# Altium integrated library Xilinx Spartan-3.IntLib: 75 symbols (part 14 of 16)
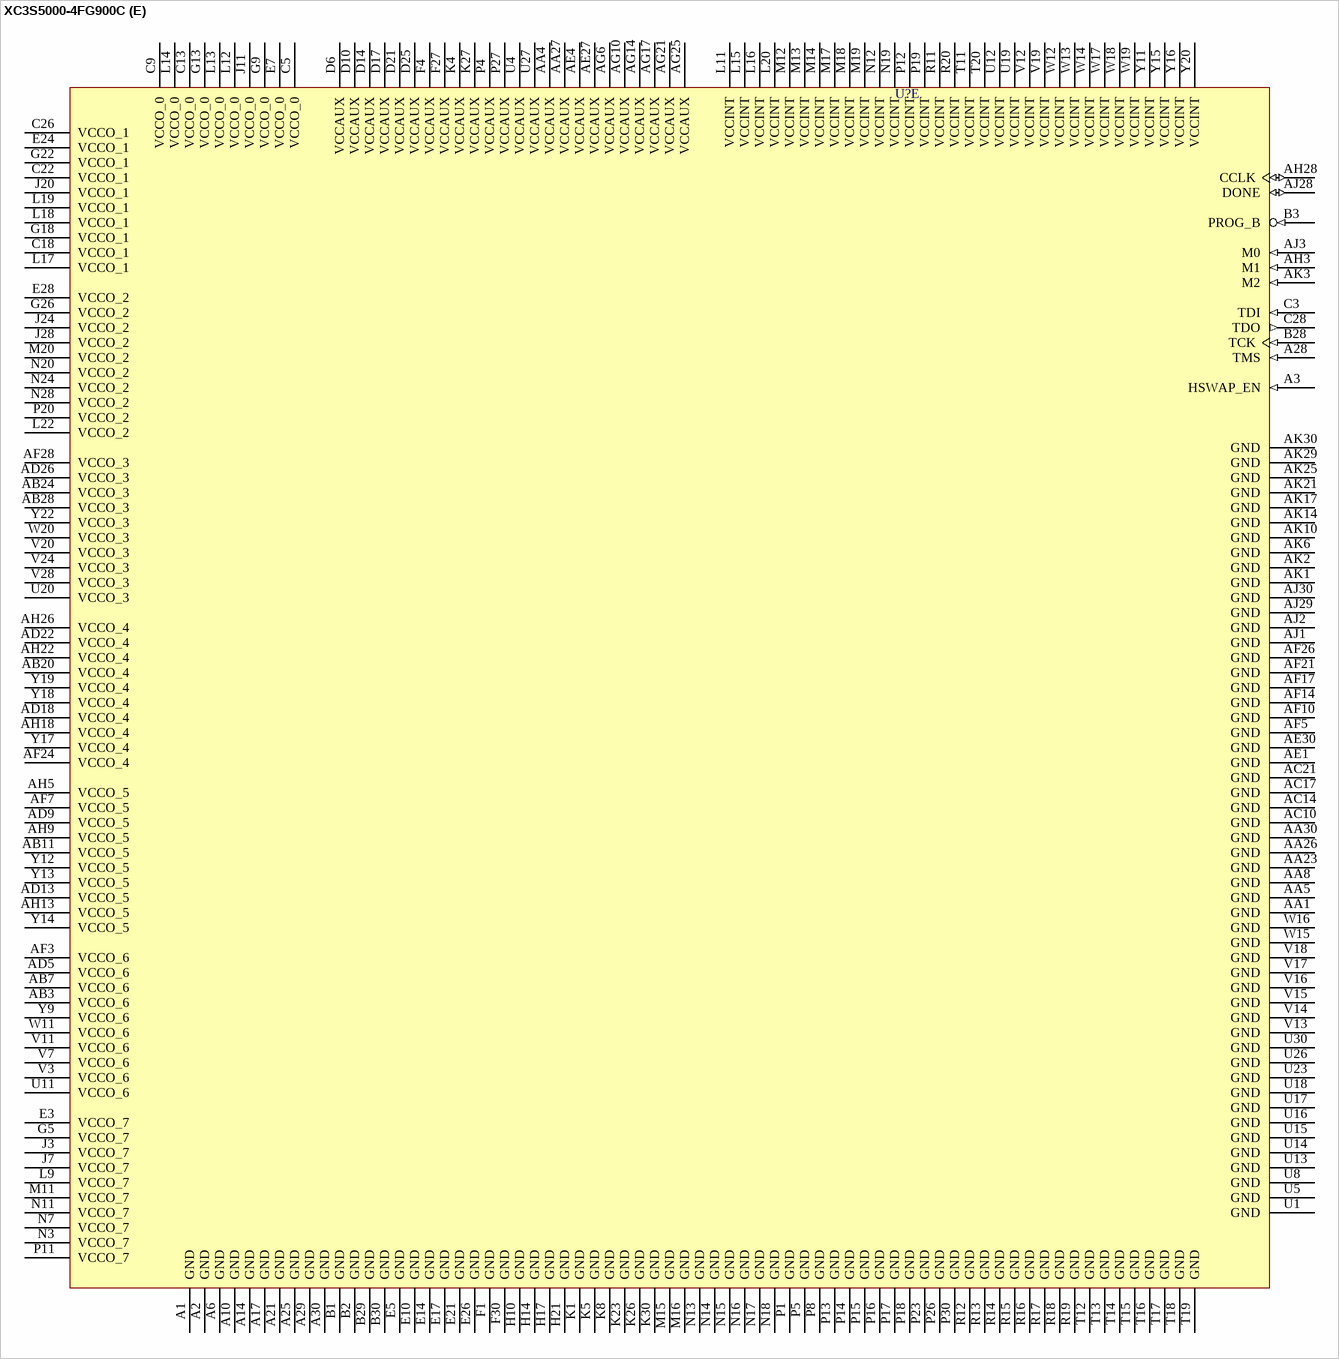
[diagram p180: symbol XC3S5000-4FG900C]

## XC3S5000-4FG900C
designator U?
Spartan-3 1.2V FPGA, 633 User I/Os, 900-ball FBGA, Standard Performance, Commercial Grade; PackageDocument: ver1.1, Apr-2001; Published: 17-Sep-2003; DatasheetDocument: 04-Mar-2004; PackageReference: FG900; Publisher: Altium Limited; Code_IPC: PBGA 31X31 FE900
footprint FG900 (900-Ball Fine Pitch Ball Grid Array (FG900))
3D model XC3S5000-FG900 (900-Ball Fine Pitch Ball Grid Array (FG900))
signal-integrity model XC3S5000_FG900 (Spartan-3)
part A pins: A4 IO_L01P_0/VRN_0 (io), A5 IO_L02P_0 (io), A7 IO_L35P_0 (io), A8 IO_L09P_0 (io), A9 IO_L38P_0 (io), A11 IO_L17P_0 (io), A12 IO_L22P_0 (io), A13 IO_L25P_0 (io), A15 IO_L32P_0/GCLK6 (io), A16 IO (io), A18 IO_L39N_1 (io), A19 IO_L26N_1 (io), A20 IO_L21N_1 (io), A22 IO_L15N_1 (io), A23 IO_L11N_1 (io), A24 IO_L07N_1 (io), A26 IO_L03N_1 (io), A27 IO_L01N_1/VRP_1 (io), B4 IO_L01N_0/VRP_0 (io), B5 IO_L02N_0 (io), B6 IO_L04P_0 (io), B7 IO_L35N_0 (io), B8 IO_L09N_0 (io), B9 IO_L38N_0 (io), B10 IO_L12P_0 (io), B11 IO_L17N_0 (io), B12 IO_L22N_0 (io), B13 IO_L25N_0 (io), B14 IO_L28P_0 (io), B15 IO_L32N_0/GCLK7 (io), B16 IO_L32N_1/GCLK5 (io), B17 IO_L28N_1 (io), B18 IO_L39P_1 (io), B19 IO_L26P_1 (io), B20 IO_L21P_1 (io), B21 IO_L17N_1/VREF_1 (io), B22 IO_L15P_1 (io), B23 IO_L11P_1 (io), B24 IO_L07P_1 (io), B25 IO_L04N_1 (io), B26 IO_L03P_1 (io), B27 IO_L01P_1/VRN_1 (io), C4 IO/VREF_0 (io), C6 IO_L04N_0 (io), C7 IO_L06P_0 (io), C8 IO_L08P_0 (io), C10 IO_L12N_0 (io), C11 IO_L16P_0 (io), C12 IO_L21P_0 (io), C14 IO_L28N_0 (io), C15 IO_L31P_0/VREF_0 (io), C16 IO_L32P_1/GCLK4 (io), C17 IO_L28P_1 (io), C19 IO_L25N_1 (io), C20 IO_L20N_1 (io), C21 IO_L17P_1 (io), C23 IO_L10N_1/VREF_1 (io), C24 IO_L06N_1/VREF_1 (io), C25 IO_L04P_1 (io), C27 IO_L02P_1 (io), D5 IO_L03N_0 (io), D7 IO_L06N_0 (io), D8 IO_L08N_0 (io), D9 IO_L37P_0 (io), D11 IO_L16N_0 (io), D12 IO_L21N_0 (io), D13 IO (io), D15 IO_L31N_0 (io), D16 IO_L31N_1/VREF_1 (io), D18 IO_L38N_1 (io), D19 IO_L25P_1 (io), D20 IO_L20P_1 (io), D22 IO_L14N_1 (io), D23 IO_L10P_1 (io), D24 IO_L06P_1 (io), D26 IO_L02N_1 (io), E6 IO_L03P_0 (io), E8 IO_L07P_0 (io), E9 IO_L37N_0 (io), E11 IO_L15P_0 (io), E12 IO_L20P_0 (io), E13 IO_L24P_0 (io), E15 IO (io), E16 IO_L31P_1 (io), E18 IO_L38P_1 (io), E19 IO_L24N_1 (io), E20 IO_L19N_1 (io), E22 IO_L14P_1 (io), E23 IO_L13P_1 (io), E25 IO (io), F6 IO_L05N_0 (io), F7 IO_L05P_0/VREF_0 (io), F8 IO_L07N_0 (io), F9 IO/VREF_0 (io), F10 IO_L11P_0 (io), F11 IO_L15N_0 (io), F12 IO_L20N_0 (io), F13 IO_L24N_0 (io), F14 IO_L27P_0 (io), F15 IO_L30P_0 (io), F16 IO (io), F17 IO_L27N_1 (io), F18 IO (io), F19 IO_L24P_1 (io), F20 IO_L19P_1 (io), F21 IO_L16N_1 (io), F22 IO_L13N_1 (io), F23 IO_L09N_1 (io), F24 IO_L05N_1 (io), F25 IO_L05P_1 (io), G7 IO_L36N_0 (io), G8 IO (io), G10 IO_L11N_0 (io), G11 IO_L14P_0 (io), G12 IO_L19P_0 (io), G14 IO_L27N_0 (io), G15 IO_L30N_0 (io), G16 IO_L30N_1 (io), G17 IO_L27P_1 (io), G19 IO_L23N_1 (io), G20 IO_L18N_1 (io), G21 IO_L16P_1 (io), G23 IO_L09P_1 (io), G24 IO_L08P_1 (io), H8 IO_L36P_0 (io), H9 IO_L10P_0 (io), H11 IO_L14N_0 (io), H12 IO_L19N_0 (io), H13 IO_L23P_0 (io), H15 IO_L29P_0 (io), H16 IO_L30P_1 (io), H18 IO_L37N_1 (io), H19 IO_L23P_1 (io), H20 IO_L18P_1 (io), H22 IO_L12N_1 (io), H23 IO_L08N_1 (io), J9 IO_L10N_0 (io), J10 IO_L13N_0 (io), J12 IO_L18P_0 (io), J13 IO_L23N_0 (io), J14 IO_L26P_0/VREF_0 (io), J15 IO_L29N_0 (io), J16 IO_L29N_1 (io), J17 IO/VREF_1 (io), J18 IO_L37P_1 (io), J19 IO_L22N_1 (io), J21 IO (io), J22 IO_L12P_1 (io), K11 IO_L13P_0 (io), K12 IO_L18N_0 (io), K13 IO (io), K14 IO_L26N_0 (io), K15 IO (io), K16 IO_L29P_1 (io), K17 IO_L40N_1 (io), K18 IO_L40P_1 (io), K19 IO_L22P_1 (io), K20 IO (io)
part B pins: AA21 IO_L20P_3 (io), AA22 IO_L16N_3 (io), AA24 IO_L17P_3/VREF_3 (io), AA25 IO_L17N_3 (io), AA28 IO_L19P_3 (io), AA29 IO_L19N_3 (io), AB23 IO_L16P_3 (io), AB25 IO (io), AB26 IO_L14P_3 (io), AB27 IO_L14N_3 (io), AB29 IO_L15P_3 (io), AB30 IO_L15N_3 (io), AC24 IO_L09N_3 (io), AC25 IO_L10P_3 (io), AC26 IO_L10N_3 (io), AC27 IO_L11P_3 (io), AC28 IO_L11N_3 (io), AC29 IO_L13P_3 (io), AC30 IO_L13N_3/VREF_3 (io), AD25 IO_L09P_3/VREF_3 (io), AD27 IO_L07P_3 (io), AD28 IO_L07N_3 (io), AD29 IO_L08P_3 (io), AD30 IO_L08N_3 (io), AE26 IO_L05N_3 (io), AE28 IO_L06P_3 (io), AE29 IO_L06N_3 (io), AF27 IO_L05P_3 (io), AF29 IO_L04P_3 (io), AF30 IO_L04N_3 (io), AG27 IO_L02P_3 (io), AG28 IO_L02N_3/VREF_3 (io), AG29 IO_L03P_3 (io), AG30 IO_L03N_3 (io), AH29 IO_L01P_3/VRN_3 (io), AH30 IO_L01N_3/VRP_3 (io), C29 IO_L01N_2/VRP_2 (io), C30 IO_L01P_2/VRN_2 (io), D27 IO_L02N_2 (io), D28 IO_L02P_2 (io), D29 IO_L03N_2/VREF_2 (io), D30 IO_L03P_2 (io), E27 IO_L41N_2 (io), E29 IO_L04N_2 (io), E30 IO_L04P_2 (io), F26 IO_L41P_2 (io), F28 IO_L05N_2 (io), F29 IO_L05P_2 (io), G25 IO_L08N_2 (io), G27 IO_L06N_2 (io), G28 IO_L06P_2 (io), G29 IO_L07N_2 (io), G30 IO_L07P_2 (io), H24 IO_L08P_2 (io), H25 IO_L09N_2/VREF_2 (io), H26 IO_L09P_2 (io), H27 IO_L10N_2 (io), H28 IO_L10P_2 (io), H29 IO_L12N_2 (io), H30 IO_L12P_2 (io), J23 IO_L15N_2 (io), J25 IO (io), J26 IO_L13N_2 (io), J27 IO_L13P_2/VREF_2 (io), J29 IO_L14N_2 (io), J30 IO_L14P_2 (io), K21 IO_L46N_2 (io), K22 IO_L15P_2 (io), K24 IO_L16N_2 (io), K25 IO_L16P_2 (io), K28 IO_L45N_2 (io), K29 IO_L45P_2 (io), L21 IO_L46P_2 (io), L23 IO_L47N_2 (io), L24 IO_L47P_2 (io), L25 IO_L19N_2 (io), L26 IO_L19P_2 (io), L27 IO_L20N_2 (io), L28 IO_L20P_2 (io), L29 IO_L21N_2 (io), L30 IO_L21P_2 (io), M21 IO_L26N_2 (io), M22 IO_L22N_2 (io), M23 IO_L22P_2 (io), M24 IO_L23N_2/VREF_2 (io), M25 IO_L23P_2 (io), M26 IO_L28N_2 (io), M27 IO_L24N_2 (io), M28 IO_L24P_2 (io), M29 IO_L50N_2 (io), M30 IO_L50P_2 (io), N21 IO_L26P_2 (io), N22 IO_L27N_2 (io), N23 IO_L27P_2 (io), N25 IO_L28P_2 (io), N26 IO_L29N_2 (io), N27 IO_L29P_2 (io), N29 IO_L31N_2 (io), N30 IO_L31P_2 (io), P21 IO_L32N_2 (io), P22 IO_L32P_2 (io), P24 IO_L33N_2 (io), P25 IO_L33P_2 (io), P28 IO_L34N_2/VREF_2 (io), P29 IO_L34P_2 (io), R21 IO_L35N_2 (io), R22 IO_L35P_2 (io), R23 IO_L37N_2 (io), R24 IO_L37P_2 (io), R25 IO_L38N_2 (io), R26 IO_L38P_2 (io), R27 IO_L39N_2 (io), R28 IO_L39P_2 (io), R29 IO_L40N_2 (io), R30 IO_L40P_2/VREF_2 (io), T21 IO_L35P_3 (io), T22 IO_L35N_3 (io), T23 IO_L37P_3 (io), T24 IO_L37N_3 (io), T25 IO_L38P_3 (io), T26 IO_L38N_3 (io), T27 IO_L39P_3 (io), T28 IO_L39N_3 (io), T29 IO_L40P_3 (io), T30 IO_L40N_3/VREF_3 (io), U21 IO_L32P_3 (io), U22 IO_L32N_3 (io), U24 IO_L33P_3 (io), U25 IO_L33N_3 (io), U28 IO_L34P_3/VREF_3 (io), U29 IO_L34N_3 (io), V21 IO_L27N_3 (io), V22 IO_L28P_3 (io), V23 IO_L28N_3 (io), V25 IO_L29N_3 (io), V26 IO_L50P_3 (io), V27 IO_L50N_3 (io), V29 IO_L31P_3 (io), V30 IO_L31N_3 (io), W21 IO_L27P_3 (io), W22 IO_L46P_3 (io), W23 IO_L46N_3 (io), W24 IO_L47P_3 (io), W25 IO_L47N_3 (io), W26 IO_L29P_3 (io), W27 IO_L48P_3 (io), W28 IO_L48N_3 (io), W29 IO_L26P_3 (io), W30 IO_L26N_3 (io), Y21 IO_L20N_3 (io), Y23 IO_L21P_3 (io), Y24 IO_L21N_3 (io), Y25 IO_L22P_3 (io), Y26 IO_L22N_3 (io), Y27 IO_L23P_3/VREF_3 (io), Y28 IO_L23N_3 (io), Y29 IO_L24P_3 (io), Y30 IO_L24N_3 (io)
part C pins: AA11 IO (io), AA12 IO_L22P_5 (io), AA13 IO_L22N_5 (io), AA14 IO_L26P_5 (io), AA15 IO (io), AA16 IO (io), AA17 IO_L26N_4 (io), AA18 IO (io), AA19 IO_L18N_4 (io), AA20 IO_L13P_4 (io), AB9 IO_L08P_5 (io), AB10 IO (io), AB12 IO_L17N_5 (io), AB13 IO_L23P_5 (io), AB14 IO_L26N_5 (io), AB15 IO_L29P_5/VREF_5 (io), AB16 IO_L29N_4 (io), AB17 IO_L26P_4/VREF_4 (io), AB18 IO_L23N_4 (io), AB19 IO_L18P_4 (io), AB21 IO_L13N_4 (io), AB22 IO_L08N_4 (io), AC8 IO_L36P_5 (io), AC9 IO_L08N_5 (io), AC11 IO_L17P_5 (io), AC12 IO_L18P_5 (io), AC13 IO_L23N_5 (io), AC15 IO_L29N_5 (io), AC16 IO_L29P_4 (io), AC18 IO_L23P_4 (io), AC19 IO_L19N_4 (io), AC20 IO_L14N_4 (io), AC22 IO_L08P_4 (io), AC23 IO_L04P_4 (io), AD7 IO_L05P_5 (io), AD8 IO_L36N_5 (io), AD10 IO_L13P_5 (io), AD11 IO_L13N_5 (io), AD12 IO_L18N_5 (io), AD14 IO_L30P_5 (io), AD15 IO_L30N_5 (io), AD16 IO_L30N_4/D2 (io), AD17 IO_L27N_4/DIN/D0 (io), AD19 IO_L19P_4 (io), AD20 IO_L14P_4 (io), AD21 IO_L11N_4 (io), AD23 IO (io), AD24 IO_L04N_4 (io), AE6 IO (io), AE7 IO_L05N_5 (io), AE8 IO_L37P_5 (io), AE9 IO_L11P_5 (io), AE10 IO_L11N_5/VREF_5 (io), AE11 IO_L14P_5 (io), AE12 IO_L19P_5/VREF_5 (io), AE13 IO_L27P_5 (io), AE14 IO_L27N_5/VREF_5 (io), AE15 IO (io), AE16 IO_L30P_4/D3 (io), AE17 IO_L27P_4/D1 (io), AE18 IO_L24N_4 (io), AE19 IO_L20N_4 (io), AE20 IO_L15N_4 (io), AE21 IO_L11P_4 (io), AE22 IO (io), AE23 IO_L05N_4 (io), AE24 IO_L34P_4 (io), AE25 IO_L34N_4 (io), AF6 IO_L03N_5 (io), AF8 IO_L37N_5 (io), AF9 IO_L09P_5 (io), AF11 IO_L14N_5 (io), AF12 IO_L19N_5 (io), AF13 IO_L24P_5 (io), AF15 IO_L31P_5/D5 (io), AF16 IO/VREF_4 (io), AF18 IO_L24P_4 (io), AF19 IO_L20P_4 (io), AF20 IO_L15P_4 (io), AF22 IO_L09N_4 (io), AF23 IO_L05P_4 (io), AF25 IO_L03P_4 (io), AG5 IO_L03P_5 (io), AG7 IO_L06P_5 (io), AG8 IO_L38P_5 (io), AG9 IO_L09N_5 (io), AG11 IO_L15P_5 (io), AG12 IO_L20P_5 (io), AG13 IO_L24N_5 (io), AG15 IO_L31N_5/D4 (io), AG16 IO_L31N_4/INIT_B (io), AG18 IO (io), AG19 IO_L21N_4 (io), AG20 IO_L16N_4 (io), AG22 IO_L09P_4 (io), AG23 IO_L06N_4/VREF_4 (io), AG24 IO_L35N_4 (io), AG26 IO_L03N_4 (io), AH4 IO/VREF_5 (io), AH6 IO_L04P_5 (io), AH7 IO_L06N_5 (io), AH8 IO_L38N_5 (io), AH10 IO_L12P_5 (io), AH11 IO_L15N_5 (io), AH12 IO_L20N_5 (io), AH14 IO_L28P_5/D7 (io), AH15 IO_L32P_5/GCLK2 (io), AH16 IO_L31P_4/DOUT/BUSY (io), AH17 IO_L28N_4 (io), AH19 IO_L21P_4 (io), AH20 IO_L16P_4 (io), AH21 IO_L12N_4 (io), AH23 IO_L06P_4 (io), AH24 IO_L35P_4 (io), AH25 IO_L33N_4 (io), AH27 IO (io), AJ4 IO_L01P_5/CS_B (io), AJ5 IO_L02P_5 (io), AJ6 IO_L04N_5 (io), AJ7 IO_L35P_5 (io), AJ8 IO_L07P_5 (io), AJ9 IO_L10P_5/VRN_5 (io), AJ10 IO_L12N_5 (io), AJ11 IO_L16P_5 (io), AJ12 IO_L21P_5 (io), AJ13 IO_L25P_5 (io), AJ14 IO_L28N_5/D6 (io), AJ15 IO_L32N_5/GCLK3 (io), AJ16 IO_L32N_4/GCLK1 (io), AJ17 IO_L28P_4 (io), AJ18 IO_L25N_4 (io), AJ19 IO_L22N_4/VREF_4 (io), AJ20 IO_L17N_4 (io), AJ21 IO_L12P_4 (io), AJ22 IO_L10N_4 (io), AJ23 IO_L07N_4 (io), AJ24 IO_L38N_4 (io), AJ25 IO_L33P_4 (io), AJ26 IO_L02N_4 (io), AJ27 IO_L01N_4/VRP_4 (io), AK4 IO_L01N_5/RDWR_B (io), AK5 IO_L02N_5 (io), AK7 IO_L35N_5 (io), AK8 IO_L07N_5 (io), AK9 IO_L10N_5/VRP_5 (io), AK11 IO_L16N_5 (io), AK12 IO_L21N_5 (io), AK13 IO_L25N_5 (io), AK15 IO/VREF_5 (io), AK16 IO_L32P_4/GCLK0 (io), AK18 IO_L25P_4 (io), AK19 IO_L22P_4 (io), AK20 IO_L17P_4 (io), AK22 IO_L10P_4 (io), AK23 IO_L07P_4 (io), AK24 IO_L38P_4 (io), AK26 IO_L02P_4 (io), AK27 IO_L01P_4/VRN_4 (io), AK28 IO/VREF_4 (io)
part D pins: AA2 IO_L19P_6 (io), AA3 IO_L19N_6 (io), AA6 IO_L17P_6/VREF_6 (io), AA7 IO_L17N_6 (io), AA9 IO_L16P_6 (io), AA10 IO_L20N_6 (io), AB1 IO_L15P_6 (io), AB2 IO_L15N_6 (io), AB4 IO_L14P_6 (io), AB5 IO_L14N_6 (io), AB6 IO (io), AB8 IO_L16N_6 (io), AC1 IO_L13P_6/VREF_6 (io), AC2 IO_L13N_6 (io), AC3 IO_L11P_6 (io), AC4 IO_L11N_6 (io), AC5 IO_L10P_6 (io), AC6 IO_L10N_6 (io), AC7 IO_L09P_6 (io), AD1 IO_L08P_6 (io), AD2 IO_L08N_6 (io), AD3 IO_L07P_6 (io), AD4 IO_L07N_6 (io), AD6 IO_L09N_6/VREF_6 (io), AE2 IO_L06P_6 (io), AE3 IO_L06N_6 (io), AE5 IO_L05P_6 (io), AF1 IO_L04P_6 (io), AF2 IO_L04N_6 (io), AF4 IO_L05N_6 (io), AG1 IO_L03P_6 (io), AG2 IO_L03N_6/VREF_6 (io), AG3 IO_L02P_6 (io), AG4 IO_L02N_6 (io), AH1 IO_L01P_6/VRN_6 (io), AH2 IO_L01N_6/VRP_6 (io), C1 IO_L01N_7/VRP_7 (io), C2 IO_L01P_7/VRN_7 (io), D1 IO_L03N_7/VREF_7 (io), D2 IO_L03P_7 (io), D3 IO_L02N_7 (io), D4 IO_L02P_7 (io), E1 IO_L04N_7 (io), E2 IO_L04P_7 (io), E4 IO_L05P_7 (io), F2 IO_L06N_7 (io), F3 IO_L06P_7 (io), F5 IO_L05N_7 (io), G1 IO_L08N_7 (io), G2 IO_L08P_7 (io), G3 IO_L07N_7 (io), G4 IO_L07P_7 (io), G6 IO_L09P_7 (io), H1 IO_L13N_7 (io), H2 IO_L13P_7 (io), H3 IO_L11N_7 (io), H4 IO_L11P_7 (io), H5 IO_L10N_7 (io), H6 IO_L10P_7/VREF_7 (io), H7 IO_L09N_7 (io), J1 IO_L15N_7 (io), J2 IO_L15P_7 (io), J4 IO_L14N_7 (io), J5 IO_L14P_7 (io), J6 IO (io), J8 IO_L16P_7/VREF_7 (io), K2 IO_L19N_7/VREF_7 (io), K3 IO_L19P_7 (io), K6 IO_L17N_7 (io), K7 IO_L17P_7 (io), K9 IO_L16N_7 (io), K10 IO_L20P_7 (io), L1 IO_L24N_7 (io), L2 IO_L24P_7 (io), L3 IO_L23N_7 (io), L4 IO_L23P_7 (io), L5 IO_L22N_7 (io), L6 IO_L22P_7 (io), L7 IO_L21N_7 (io), L8 IO_L21P_7 (io), L10 IO_L20N_7 (io), M1 IO_L27N_7 (io), M2 IO_L27P_7/VREF_7 (io), M3 IO_L26N_7 (io), M4 IO_L26P_7 (io), M5 IO_L49P_7 (io), M6 IO_L25N_7 (io), M7 IO_L25P_7 (io), M8 IO_L46N_7 (io), M9 IO_L46P_7 (io), M10 IO_L28P_7 (io), N1 IO_L31N_7 (io), N2 IO_L31P_7 (io), N4 IO_L50N_7 (io), N5 IO_L50P_7 (io), N6 IO_L49N_7 (io), N8 IO_L29N_7 (io), N9 IO_L29P_7 (io), N10 IO_L28N_7 (io), P2 IO_L34N_7 (io), P3 IO_L34P_7 (io), P6 IO_L33N_7 (io), P7 IO_L33P_7 (io), P9 IO_L32N_7 (io), P10 IO_L32P_7 (io), R1 IO_L40N_7/VREF_7 (io), R2 IO_L40P_7 (io), R3 IO_L39N_7 (io), R4 IO_L39P_7 (io), R5 IO_L38N_7 (io), R6 IO_L38P_7 (io), R7 IO_L37N_7 (io), R8 IO_L37P_7/VREF_7 (io), R9 IO_L35N_7 (io), R10 IO_L35P_7 (io), T1 IO_L40P_6/VREF_6 (io), T2 IO_L40N_6 (io), T3 IO_L39P_6 (io), T4 IO_L39N_6 (io), T5 IO_L38P_6 (io), T6 IO_L38N_6 (io), T7 IO_L52P_6 (io), T8 IO_L52N_6 (io), T9 IO_L37P_6 (io), T10 IO_L37N_6 (io), U2 IO_L36P_6 (io), U3 IO_L36N_6 (io), U6 IO_L35P_6 (io), U7 IO_L35N_6 (io), U9 IO_L34P_6 (io), U10 IO_L34N_6/VREF_6 (io), V1 IO_L33P_6 (io), V2 IO_L33N_6 (io), V4 IO_L32P_6 (io), V5 IO_L32N_6 (io), V6 IO_L31P_6 (io), V8 IO_L30P_6 (io), V9 IO_L30N_6 (io), V10 IO_L29P_6 (io), W1 IO_L28P_6 (io), W2 IO_L28N_6 (io), W3 IO_L27P_6 (io), W4 IO_L27N_6 (io), W5 IO_L31N_6 (io), W6 IO_L26P_6 (io), W7 IO_L26N_6 (io), W8 IO_L25P_6 (io), W9 IO_L25N_6 (io), W10 IO_L29N_6 (io), Y1 IO_L24P_6 (io), Y2 IO_L24N_6/VREF_6 (io), Y3 IO_L45P_6 (io), Y4 IO_L45N_6 (io), Y5 IO_L22P_6 (io), Y6 IO_L22N_6 (io), Y7 IO_L21P_6 (io), Y8 IO_L21N_6 (io), Y10 IO_L20P_6 (io)
part E pins: A1 GND (power), A2 GND (power), A3 HSWAP_EN (in), A6 GND (power), A10 GND (power), A14 GND (power), A17 GND (power), A21 GND (power), A25 GND (power), A28 TMS (in), A29 GND (power), A30 GND (power), AA1 GND (power), AA4 VCCAUX (power), AA5 GND (power), AA8 GND (power), AA23 GND (power), AA26 GND (power), AA27 VCCAUX (power), AA30 GND (power), AB3 VCCO_6 (power), AB7 VCCO_6 (power), AB11 VCCO_5 (power), AB20 VCCO_4 (power), AB24 VCCO_3 (power), AB28 VCCO_3 (power), AC10 GND (power), AC14 GND (power), AC17 GND (power), AC21 GND (power), AD5 VCCO_6 (power), AD9 VCCO_5 (power), AD13 VCCO_5 (power), AD18 VCCO_4 (power), AD22 VCCO_4 (power), AD26 VCCO_3 (power), AE1 GND (power), AE4 VCCAUX (power), AE27 VCCAUX (power), AE30 GND (power), AF3 VCCO_6 (power), AF5 GND (power), AF7 VCCO_5 (power), AF10 GND (power), AF14 GND (power), AF17 GND (power), AF21 GND (power), AF24 VCCO_4 (power), AF26 GND (power), AF28 VCCO_3 (power), AG6 VCCAUX (power), AG10 VCCAUX (power), AG14 VCCAUX (power), AG17 VCCAUX (power), AG21 VCCAUX (power), AG25 VCCAUX (power), AH3 M1 (in), AH5 VCCO_5 (power), AH9 VCCO_5 (power), AH13 VCCO_5 (power), AH18 VCCO_4 (power), AH22 VCCO_4 (power), AH26 VCCO_4 (power), AH28 CCLK (io), AJ1 GND (power), AJ2 GND (power), AJ3 M0 (in), AJ28 DONE (io), AJ29 GND (power), AJ30 GND (power), AK1 GND (power), AK2 GND (power), AK3 M2 (in), AK6 GND (power), AK10 GND (power), AK14 GND (power), AK17 GND (power), AK21 GND (power), AK25 GND (power), AK29 GND (power), AK30 GND (power), B1 GND (power), B2 GND (power), B3 PROG_B (in), B28 TCK (in), B29 GND (power), B30 GND (power), C3 TDI (in), C5 VCCO_0 (power), C9 VCCO_0 (power), C13 VCCO_0 (power), C18 VCCO_1 (power), C22 VCCO_1 (power), C26 VCCO_1 (power), C28 TDO (out), D6 VCCAUX (power), D10 VCCAUX (power), D14 VCCAUX (power), D17 VCCAUX (power), D21 VCCAUX (power), D25 VCCAUX (power), E3 VCCO_7 (power), E5 GND (power), E7 VCCO_0 (power), E10 GND (power), E14 GND (power), E17 GND (power), E21 GND (power), E24 VCCO_1 (power), E26 GND (power), E28 VCCO_2 (power), F1 GND (power), F4 VCCAUX (power), F27 VCCAUX (power), F30 GND (power), G5 VCCO_7 (power), G9 VCCO_0 (power), G13 VCCO_0 (power), G18 VCCO_1 (power), G22 VCCO_1 (power), G26 VCCO_2 (power), H10 GND (power), H14 GND (power), H17 GND (power), H21 GND (power), J3 VCCO_7 (power), J7 VCCO_7 (power), J11 VCCO_0 (power), J20 VCCO_1 (power), J24 VCCO_2 (power), J28 VCCO_2 (power), K1 GND (power), K4 VCCAUX (power), K5 GND (power), K8 GND (power), K23 GND (power), K26 GND (power), K27 VCCAUX (power), K30 GND (power), L9 VCCO_7 (power), L11 VCCINT (power), L12 VCCO_0 (power), L13 VCCO_0 (power), L14 VCCO_0 (power), L15 VCCINT (power), L16 VCCINT (power), L17 VCCO_1 (power), L18 VCCO_1 (power), L19 VCCO_1 (power), L20 VCCINT (power), L22 VCCO_2 (power), M11 VCCO_7 (power), M12 VCCINT (power), M13 VCCINT (power), M14 VCCINT (power), M15 GND (power), M16 GND (power), M17 VCCINT (power), M18 VCCINT (power), M19 VCCINT (power), M20 VCCO_2 (power), N3 VCCO_7 (power), N7 VCCO_7 (power), N11 VCCO_7 (power), N12 VCCINT (power), N13 GND (power), N14 GND (power), N15 GND (power), N16 GND (power), N17 GND (power), N18 GND (power), N19 VCCINT (power), N20 VCCO_2 (power), N24 VCCO_2 (power), N28 VCCO_2 (power), P1 GND (power), P4 VCCAUX (power), P5 GND (power), P8 GND (power), P11 VCCO_7 (power), P12 VCCINT (power), P13 GND (power), P14 GND (power), P15 GND (power), P16 GND (power), P17 GND (power), P18 GND (power), P19 VCCINT (power), P20 VCCO_2 (power), P23 GND (power), P26 GND (power), P27 VCCAUX (power), P30 GND (power), R11 VCCINT (power), R12 GND (power), R13 GND (power), R14 GND (power), R15 GND (power), R16 GND (power), R17 GND (power), R18 GND (power), R19 GND (power), R20 VCCINT (power), T11 VCCINT (power), T12 GND (power), T13 GND (power), T14 GND (power), T15 GND (power), T16 GND (power), T17 GND (power), T18 GND (power), T19 GND (power), T20 VCCINT (power), U1 GND (power), U4 VCCAUX (power), U5 GND (power), U8 GND (power), U11 VCCO_6 (power), U12 VCCINT (power), U13 GND (power), U14 GND (power), U15 GND (power), U16 GND (power), U17 GND (power), U18 GND (power), U19 VCCINT (power), U20 VCCO_3 (power), U23 GND (power), U26 GND (power), U27 VCCAUX (power), U30 GND (power), V3 VCCO_6 (power), V7 VCCO_6 (power), V11 VCCO_6 (power), V12 VCCINT (power), V13 GND (power), V14 GND (power), V15 GND (power), V16 GND (power), V17 GND (power), V18 GND (power), V19 VCCINT (power), V20 VCCO_3 (power), V24 VCCO_3 (power), V28 VCCO_3 (power), W11 VCCO_6 (power), W12 VCCINT (power), W13 VCCINT (power), W14 VCCINT (power), W15 GND (power), W16 GND (power), W17 VCCINT (power), W18 VCCINT (power), W19 VCCINT (power), W20 VCCO_3 (power), Y9 VCCO_6 (power), Y11 VCCINT (power), Y12 VCCO_5 (power), Y13 VCCO_5 (power), Y14 VCCO_5 (power), Y15 VCCINT (power), Y16 VCCINT (power), Y17 VCCO_4 (power), Y18 VCCO_4 (power), Y19 VCCO_4 (power), Y20 VCCINT (power), Y22 VCCO_3 (power)
part A text: BANK 0; BANK 1
part B text: BANK 2; BANK 3
part C text: BANK 4; BANK 5
part D text: BANK 6; BANK 7

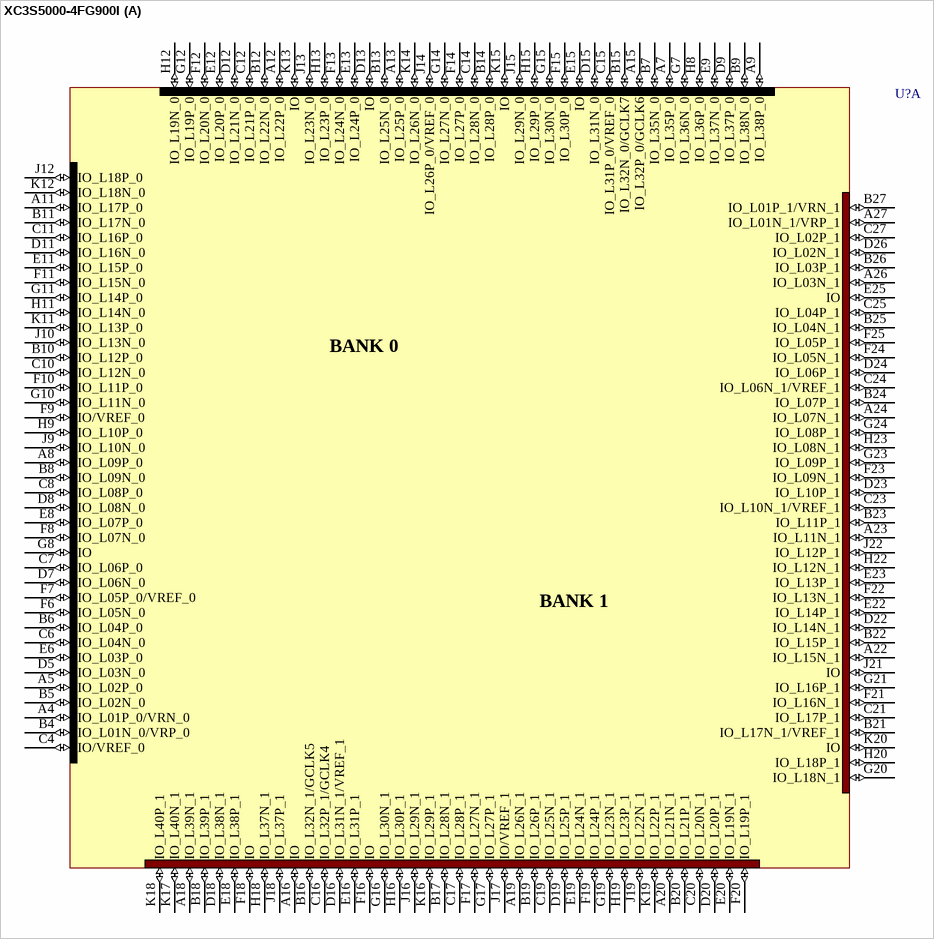
[diagram p140: symbol XC3S5000-4FG900I]

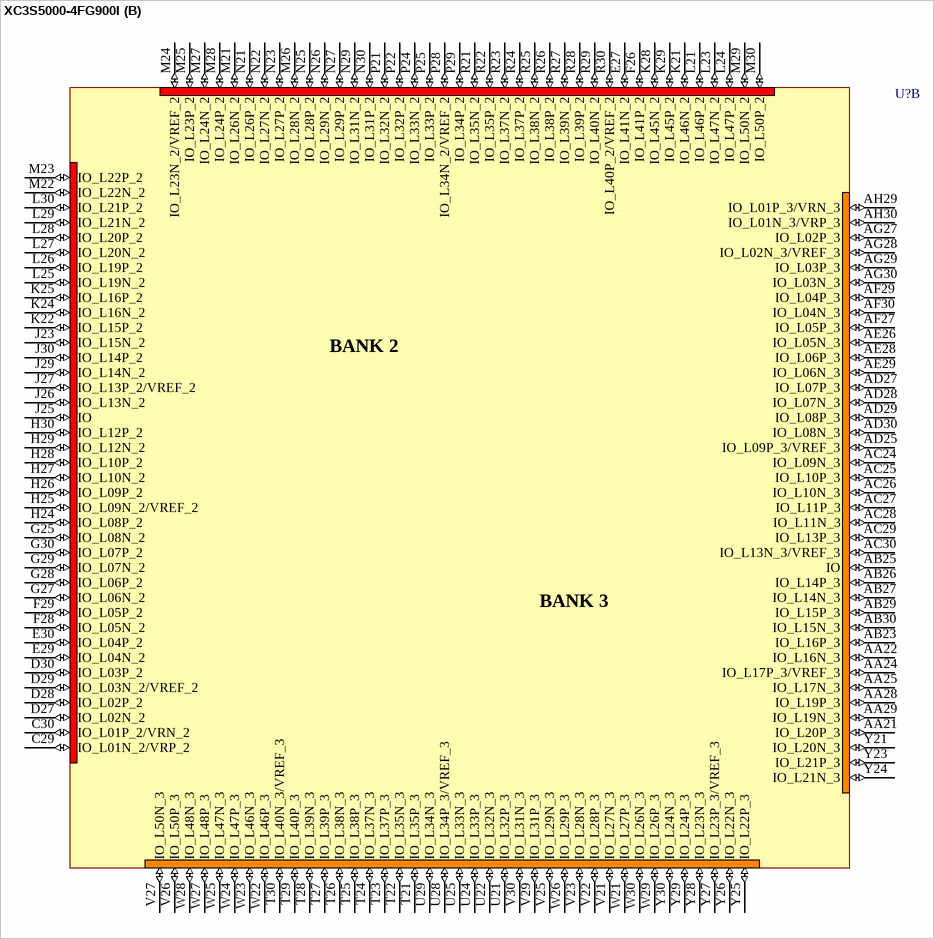
[diagram p141: symbol XC3S5000-4FG900I]

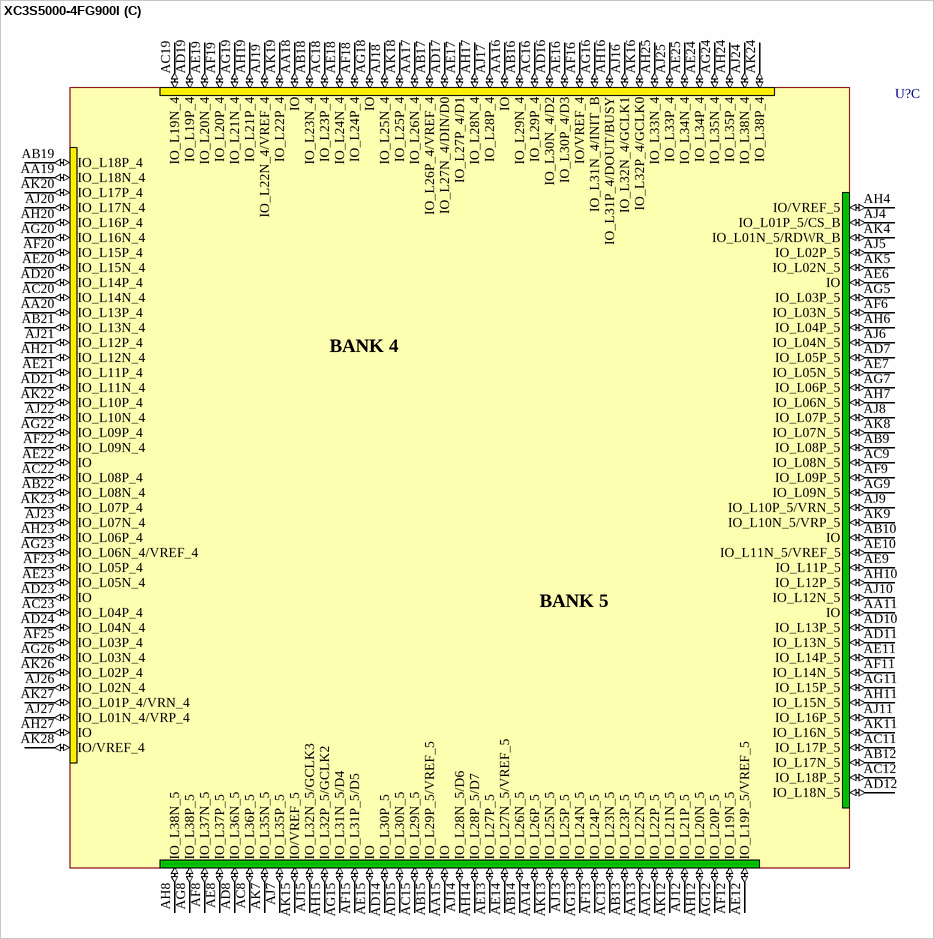
[diagram p142: symbol XC3S5000-4FG900I]

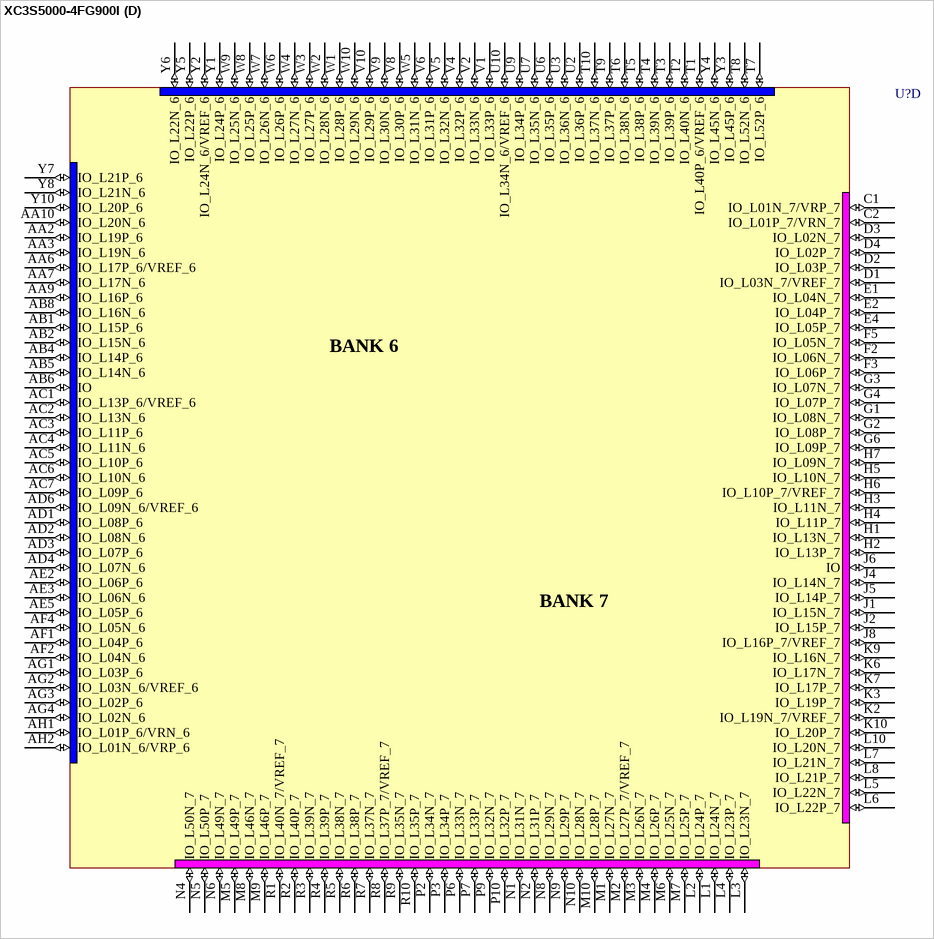
[diagram p143: symbol XC3S5000-4FG900I]

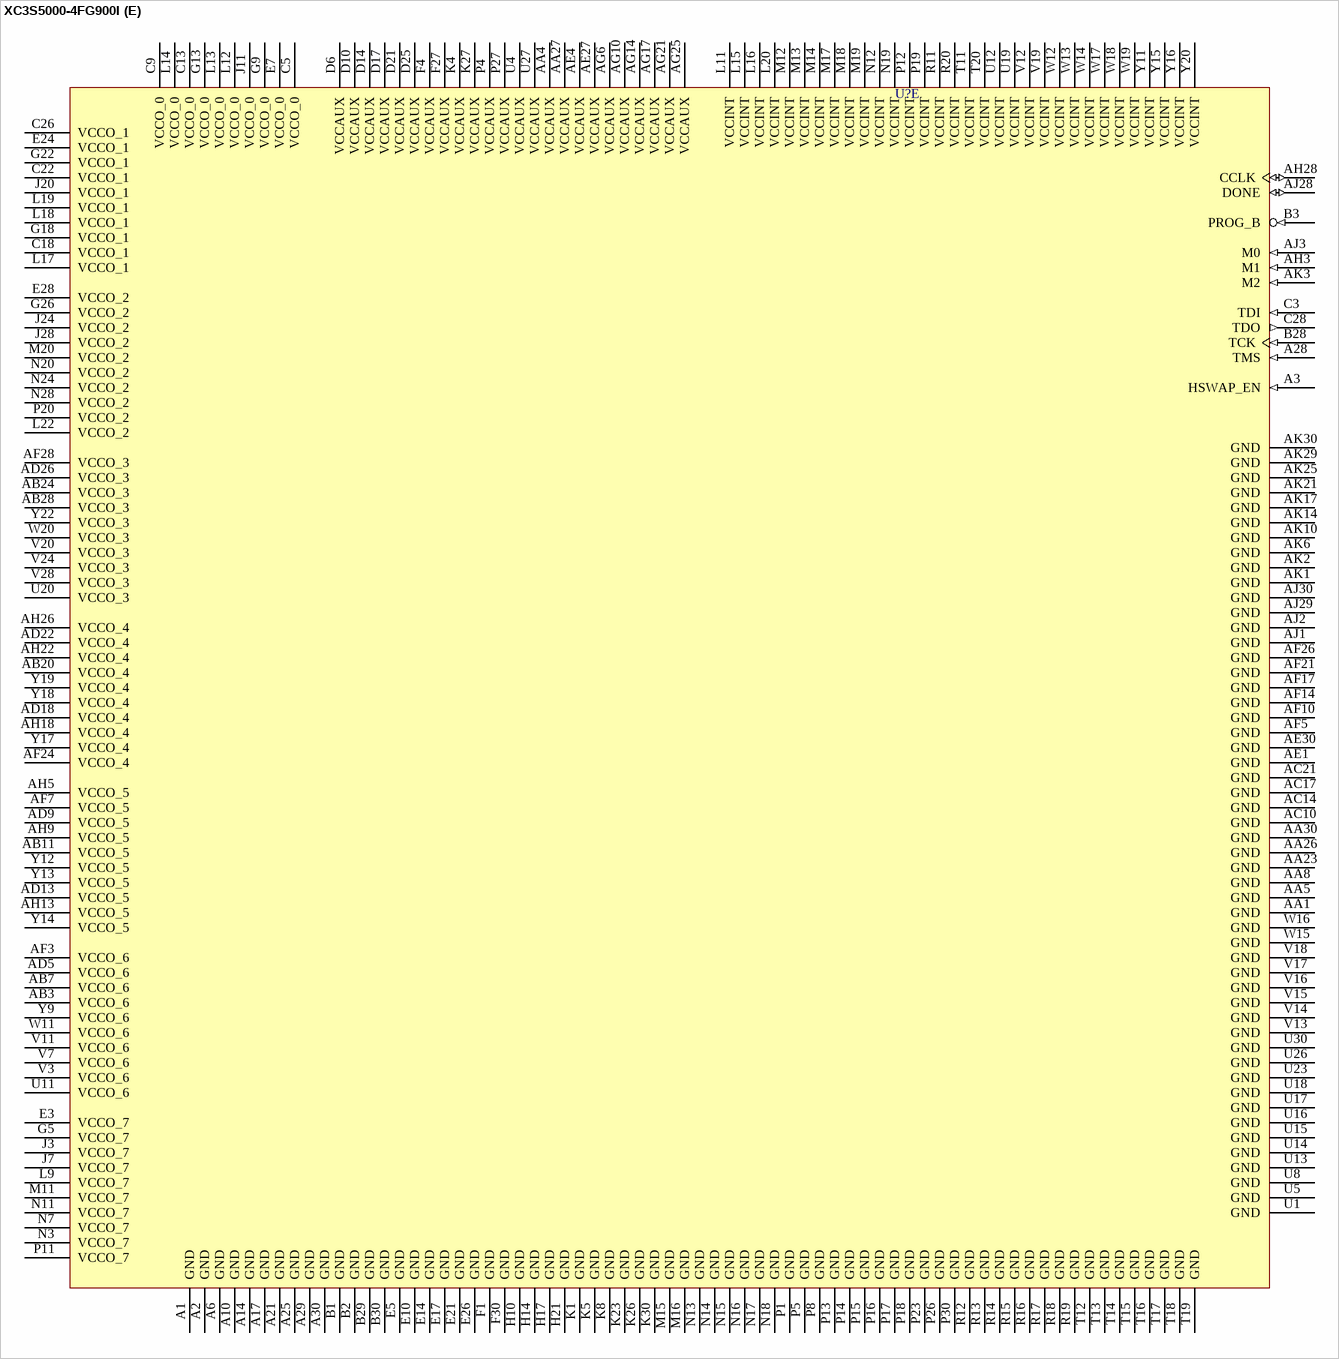
[diagram p144: symbol XC3S5000-4FG900I]

## XC3S5000-4FG900I
designator U?
Spartan-3 1.2V FPGA, 633 User I/Os, 900-ball FBGA, Standard Performance, Industrial Grade; PackageDocument: ver1.1, Apr-2001; Published: 17-Sep-2003; DatasheetDocument: 04-Mar-2004; PackageReference: FG900; Publisher: Altium Limited; Code_IPC: PBGA 31X31 FE900
footprint FG900 (900-Ball Fine Pitch Ball Grid Array (FG900))
3D model XC3S5000-FG900 (900-Ball Fine Pitch Ball Grid Array (FG900))
signal-integrity model XC3S5000_FG900 (Spartan-3)
part A pins: A4 IO_L01P_0/VRN_0 (io), A5 IO_L02P_0 (io), A7 IO_L35P_0 (io), A8 IO_L09P_0 (io), A9 IO_L38P_0 (io), A11 IO_L17P_0 (io), A12 IO_L22P_0 (io), A13 IO_L25P_0 (io), A15 IO_L32P_0/GCLK6 (io), A16 IO (io), A18 IO_L39N_1 (io), A19 IO_L26N_1 (io), A20 IO_L21N_1 (io), A22 IO_L15N_1 (io), A23 IO_L11N_1 (io), A24 IO_L07N_1 (io), A26 IO_L03N_1 (io), A27 IO_L01N_1/VRP_1 (io), B4 IO_L01N_0/VRP_0 (io), B5 IO_L02N_0 (io), B6 IO_L04P_0 (io), B7 IO_L35N_0 (io), B8 IO_L09N_0 (io), B9 IO_L38N_0 (io), B10 IO_L12P_0 (io), B11 IO_L17N_0 (io), B12 IO_L22N_0 (io), B13 IO_L25N_0 (io), B14 IO_L28P_0 (io), B15 IO_L32N_0/GCLK7 (io), B16 IO_L32N_1/GCLK5 (io), B17 IO_L28N_1 (io), B18 IO_L39P_1 (io), B19 IO_L26P_1 (io), B20 IO_L21P_1 (io), B21 IO_L17N_1/VREF_1 (io), B22 IO_L15P_1 (io), B23 IO_L11P_1 (io), B24 IO_L07P_1 (io), B25 IO_L04N_1 (io), B26 IO_L03P_1 (io), B27 IO_L01P_1/VRN_1 (io), C4 IO/VREF_0 (io), C6 IO_L04N_0 (io), C7 IO_L06P_0 (io), C8 IO_L08P_0 (io), C10 IO_L12N_0 (io), C11 IO_L16P_0 (io), C12 IO_L21P_0 (io), C14 IO_L28N_0 (io), C15 IO_L31P_0/VREF_0 (io), C16 IO_L32P_1/GCLK4 (io), C17 IO_L28P_1 (io), C19 IO_L25N_1 (io), C20 IO_L20N_1 (io), C21 IO_L17P_1 (io), C23 IO_L10N_1/VREF_1 (io), C24 IO_L06N_1/VREF_1 (io), C25 IO_L04P_1 (io), C27 IO_L02P_1 (io), D5 IO_L03N_0 (io), D7 IO_L06N_0 (io), D8 IO_L08N_0 (io), D9 IO_L37P_0 (io), D11 IO_L16N_0 (io), D12 IO_L21N_0 (io), D13 IO (io), D15 IO_L31N_0 (io), D16 IO_L31N_1/VREF_1 (io), D18 IO_L38N_1 (io), D19 IO_L25P_1 (io), D20 IO_L20P_1 (io), D22 IO_L14N_1 (io), D23 IO_L10P_1 (io), D24 IO_L06P_1 (io), D26 IO_L02N_1 (io), E6 IO_L03P_0 (io), E8 IO_L07P_0 (io), E9 IO_L37N_0 (io), E11 IO_L15P_0 (io), E12 IO_L20P_0 (io), E13 IO_L24P_0 (io), E15 IO (io), E16 IO_L31P_1 (io), E18 IO_L38P_1 (io), E19 IO_L24N_1 (io), E20 IO_L19N_1 (io), E22 IO_L14P_1 (io), E23 IO_L13P_1 (io), E25 IO (io), F6 IO_L05N_0 (io), F7 IO_L05P_0/VREF_0 (io), F8 IO_L07N_0 (io), F9 IO/VREF_0 (io), F10 IO_L11P_0 (io), F11 IO_L15N_0 (io), F12 IO_L20N_0 (io), F13 IO_L24N_0 (io), F14 IO_L27P_0 (io), F15 IO_L30P_0 (io), F16 IO (io), F17 IO_L27N_1 (io), F18 IO (io), F19 IO_L24P_1 (io), F20 IO_L19P_1 (io), F21 IO_L16N_1 (io), F22 IO_L13N_1 (io), F23 IO_L09N_1 (io), F24 IO_L05N_1 (io), F25 IO_L05P_1 (io), G7 IO_L36N_0 (io), G8 IO (io), G10 IO_L11N_0 (io), G11 IO_L14P_0 (io), G12 IO_L19P_0 (io), G14 IO_L27N_0 (io), G15 IO_L30N_0 (io), G16 IO_L30N_1 (io), G17 IO_L27P_1 (io), G19 IO_L23N_1 (io), G20 IO_L18N_1 (io), G21 IO_L16P_1 (io), G23 IO_L09P_1 (io), G24 IO_L08P_1 (io), H8 IO_L36P_0 (io), H9 IO_L10P_0 (io), H11 IO_L14N_0 (io), H12 IO_L19N_0 (io), H13 IO_L23P_0 (io), H15 IO_L29P_0 (io), H16 IO_L30P_1 (io), H18 IO_L37N_1 (io), H19 IO_L23P_1 (io), H20 IO_L18P_1 (io), H22 IO_L12N_1 (io), H23 IO_L08N_1 (io), J9 IO_L10N_0 (io), J10 IO_L13N_0 (io), J12 IO_L18P_0 (io), J13 IO_L23N_0 (io), J14 IO_L26P_0/VREF_0 (io), J15 IO_L29N_0 (io), J16 IO_L29N_1 (io), J17 IO/VREF_1 (io), J18 IO_L37P_1 (io), J19 IO_L22N_1 (io), J21 IO (io), J22 IO_L12P_1 (io), K11 IO_L13P_0 (io), K12 IO_L18N_0 (io), K13 IO (io), K14 IO_L26N_0 (io), K15 IO (io), K16 IO_L29P_1 (io), K17 IO_L40N_1 (io), K18 IO_L40P_1 (io), K19 IO_L22P_1 (io), K20 IO (io)
part B pins: AA21 IO_L20P_3 (io), AA22 IO_L16N_3 (io), AA24 IO_L17P_3/VREF_3 (io), AA25 IO_L17N_3 (io), AA28 IO_L19P_3 (io), AA29 IO_L19N_3 (io), AB23 IO_L16P_3 (io), AB25 IO (io), AB26 IO_L14P_3 (io), AB27 IO_L14N_3 (io), AB29 IO_L15P_3 (io), AB30 IO_L15N_3 (io), AC24 IO_L09N_3 (io), AC25 IO_L10P_3 (io), AC26 IO_L10N_3 (io), AC27 IO_L11P_3 (io), AC28 IO_L11N_3 (io), AC29 IO_L13P_3 (io), AC30 IO_L13N_3/VREF_3 (io), AD25 IO_L09P_3/VREF_3 (io), AD27 IO_L07P_3 (io), AD28 IO_L07N_3 (io), AD29 IO_L08P_3 (io), AD30 IO_L08N_3 (io), AE26 IO_L05N_3 (io), AE28 IO_L06P_3 (io), AE29 IO_L06N_3 (io), AF27 IO_L05P_3 (io), AF29 IO_L04P_3 (io), AF30 IO_L04N_3 (io), AG27 IO_L02P_3 (io), AG28 IO_L02N_3/VREF_3 (io), AG29 IO_L03P_3 (io), AG30 IO_L03N_3 (io), AH29 IO_L01P_3/VRN_3 (io), AH30 IO_L01N_3/VRP_3 (io), C29 IO_L01N_2/VRP_2 (io), C30 IO_L01P_2/VRN_2 (io), D27 IO_L02N_2 (io), D28 IO_L02P_2 (io), D29 IO_L03N_2/VREF_2 (io), D30 IO_L03P_2 (io), E27 IO_L41N_2 (io), E29 IO_L04N_2 (io), E30 IO_L04P_2 (io), F26 IO_L41P_2 (io), F28 IO_L05N_2 (io), F29 IO_L05P_2 (io), G25 IO_L08N_2 (io), G27 IO_L06N_2 (io), G28 IO_L06P_2 (io), G29 IO_L07N_2 (io), G30 IO_L07P_2 (io), H24 IO_L08P_2 (io), H25 IO_L09N_2/VREF_2 (io), H26 IO_L09P_2 (io), H27 IO_L10N_2 (io), H28 IO_L10P_2 (io), H29 IO_L12N_2 (io), H30 IO_L12P_2 (io), J23 IO_L15N_2 (io), J25 IO (io), J26 IO_L13N_2 (io), J27 IO_L13P_2/VREF_2 (io), J29 IO_L14N_2 (io), J30 IO_L14P_2 (io), K21 IO_L46N_2 (io), K22 IO_L15P_2 (io), K24 IO_L16N_2 (io), K25 IO_L16P_2 (io), K28 IO_L45N_2 (io), K29 IO_L45P_2 (io), L21 IO_L46P_2 (io), L23 IO_L47N_2 (io), L24 IO_L47P_2 (io), L25 IO_L19N_2 (io), L26 IO_L19P_2 (io), L27 IO_L20N_2 (io), L28 IO_L20P_2 (io), L29 IO_L21N_2 (io), L30 IO_L21P_2 (io), M21 IO_L26N_2 (io), M22 IO_L22N_2 (io), M23 IO_L22P_2 (io), M24 IO_L23N_2/VREF_2 (io), M25 IO_L23P_2 (io), M26 IO_L28N_2 (io), M27 IO_L24N_2 (io), M28 IO_L24P_2 (io), M29 IO_L50N_2 (io), M30 IO_L50P_2 (io), N21 IO_L26P_2 (io), N22 IO_L27N_2 (io), N23 IO_L27P_2 (io), N25 IO_L28P_2 (io), N26 IO_L29N_2 (io), N27 IO_L29P_2 (io), N29 IO_L31N_2 (io), N30 IO_L31P_2 (io), P21 IO_L32N_2 (io), P22 IO_L32P_2 (io), P24 IO_L33N_2 (io), P25 IO_L33P_2 (io), P28 IO_L34N_2/VREF_2 (io), P29 IO_L34P_2 (io), R21 IO_L35N_2 (io), R22 IO_L35P_2 (io), R23 IO_L37N_2 (io), R24 IO_L37P_2 (io), R25 IO_L38N_2 (io), R26 IO_L38P_2 (io), R27 IO_L39N_2 (io), R28 IO_L39P_2 (io), R29 IO_L40N_2 (io), R30 IO_L40P_2/VREF_2 (io), T21 IO_L35P_3 (io), T22 IO_L35N_3 (io), T23 IO_L37P_3 (io), T24 IO_L37N_3 (io), T25 IO_L38P_3 (io), T26 IO_L38N_3 (io), T27 IO_L39P_3 (io), T28 IO_L39N_3 (io), T29 IO_L40P_3 (io), T30 IO_L40N_3/VREF_3 (io), U21 IO_L32P_3 (io), U22 IO_L32N_3 (io), U24 IO_L33P_3 (io), U25 IO_L33N_3 (io), U28 IO_L34P_3/VREF_3 (io), U29 IO_L34N_3 (io), V21 IO_L27N_3 (io), V22 IO_L28P_3 (io), V23 IO_L28N_3 (io), V25 IO_L29N_3 (io), V26 IO_L50P_3 (io), V27 IO_L50N_3 (io), V29 IO_L31P_3 (io), V30 IO_L31N_3 (io), W21 IO_L27P_3 (io), W22 IO_L46P_3 (io), W23 IO_L46N_3 (io), W24 IO_L47P_3 (io), W25 IO_L47N_3 (io), W26 IO_L29P_3 (io), W27 IO_L48P_3 (io), W28 IO_L48N_3 (io), W29 IO_L26P_3 (io), W30 IO_L26N_3 (io), Y21 IO_L20N_3 (io), Y23 IO_L21P_3 (io), Y24 IO_L21N_3 (io), Y25 IO_L22P_3 (io), Y26 IO_L22N_3 (io), Y27 IO_L23P_3/VREF_3 (io), Y28 IO_L23N_3 (io), Y29 IO_L24P_3 (io), Y30 IO_L24N_3 (io)
part C pins: AA11 IO (io), AA12 IO_L22P_5 (io), AA13 IO_L22N_5 (io), AA14 IO_L26P_5 (io), AA15 IO (io), AA16 IO (io), AA17 IO_L26N_4 (io), AA18 IO (io), AA19 IO_L18N_4 (io), AA20 IO_L13P_4 (io), AB9 IO_L08P_5 (io), AB10 IO (io), AB12 IO_L17N_5 (io), AB13 IO_L23P_5 (io), AB14 IO_L26N_5 (io), AB15 IO_L29P_5/VREF_5 (io), AB16 IO_L29N_4 (io), AB17 IO_L26P_4/VREF_4 (io), AB18 IO_L23N_4 (io), AB19 IO_L18P_4 (io), AB21 IO_L13N_4 (io), AB22 IO_L08N_4 (io), AC8 IO_L36P_5 (io), AC9 IO_L08N_5 (io), AC11 IO_L17P_5 (io), AC12 IO_L18P_5 (io), AC13 IO_L23N_5 (io), AC15 IO_L29N_5 (io), AC16 IO_L29P_4 (io), AC18 IO_L23P_4 (io), AC19 IO_L19N_4 (io), AC20 IO_L14N_4 (io), AC22 IO_L08P_4 (io), AC23 IO_L04P_4 (io), AD7 IO_L05P_5 (io), AD8 IO_L36N_5 (io), AD10 IO_L13P_5 (io), AD11 IO_L13N_5 (io), AD12 IO_L18N_5 (io), AD14 IO_L30P_5 (io), AD15 IO_L30N_5 (io), AD16 IO_L30N_4/D2 (io), AD17 IO_L27N_4/DIN/D0 (io), AD19 IO_L19P_4 (io), AD20 IO_L14P_4 (io), AD21 IO_L11N_4 (io), AD23 IO (io), AD24 IO_L04N_4 (io), AE6 IO (io), AE7 IO_L05N_5 (io), AE8 IO_L37P_5 (io), AE9 IO_L11P_5 (io), AE10 IO_L11N_5/VREF_5 (io), AE11 IO_L14P_5 (io), AE12 IO_L19P_5/VREF_5 (io), AE13 IO_L27P_5 (io), AE14 IO_L27N_5/VREF_5 (io), AE15 IO (io), AE16 IO_L30P_4/D3 (io), AE17 IO_L27P_4/D1 (io), AE18 IO_L24N_4 (io), AE19 IO_L20N_4 (io), AE20 IO_L15N_4 (io), AE21 IO_L11P_4 (io), AE22 IO (io), AE23 IO_L05N_4 (io), AE24 IO_L34P_4 (io), AE25 IO_L34N_4 (io), AF6 IO_L03N_5 (io), AF8 IO_L37N_5 (io), AF9 IO_L09P_5 (io), AF11 IO_L14N_5 (io), AF12 IO_L19N_5 (io), AF13 IO_L24P_5 (io), AF15 IO_L31P_5/D5 (io), AF16 IO/VREF_4 (io), AF18 IO_L24P_4 (io), AF19 IO_L20P_4 (io), AF20 IO_L15P_4 (io), AF22 IO_L09N_4 (io), AF23 IO_L05P_4 (io), AF25 IO_L03P_4 (io), AG5 IO_L03P_5 (io), AG7 IO_L06P_5 (io), AG8 IO_L38P_5 (io), AG9 IO_L09N_5 (io), AG11 IO_L15P_5 (io), AG12 IO_L20P_5 (io), AG13 IO_L24N_5 (io), AG15 IO_L31N_5/D4 (io), AG16 IO_L31N_4/INIT_B (io), AG18 IO (io), AG19 IO_L21N_4 (io), AG20 IO_L16N_4 (io), AG22 IO_L09P_4 (io), AG23 IO_L06N_4/VREF_4 (io), AG24 IO_L35N_4 (io), AG26 IO_L03N_4 (io), AH4 IO/VREF_5 (io), AH6 IO_L04P_5 (io), AH7 IO_L06N_5 (io), AH8 IO_L38N_5 (io), AH10 IO_L12P_5 (io), AH11 IO_L15N_5 (io), AH12 IO_L20N_5 (io), AH14 IO_L28P_5/D7 (io), AH15 IO_L32P_5/GCLK2 (io), AH16 IO_L31P_4/DOUT/BUSY (io), AH17 IO_L28N_4 (io), AH19 IO_L21P_4 (io), AH20 IO_L16P_4 (io), AH21 IO_L12N_4 (io), AH23 IO_L06P_4 (io), AH24 IO_L35P_4 (io), AH25 IO_L33N_4 (io), AH27 IO (io), AJ4 IO_L01P_5/CS_B (io), AJ5 IO_L02P_5 (io), AJ6 IO_L04N_5 (io), AJ7 IO_L35P_5 (io), AJ8 IO_L07P_5 (io), AJ9 IO_L10P_5/VRN_5 (io), AJ10 IO_L12N_5 (io), AJ11 IO_L16P_5 (io), AJ12 IO_L21P_5 (io), AJ13 IO_L25P_5 (io), AJ14 IO_L28N_5/D6 (io), AJ15 IO_L32N_5/GCLK3 (io), AJ16 IO_L32N_4/GCLK1 (io), AJ17 IO_L28P_4 (io), AJ18 IO_L25N_4 (io), AJ19 IO_L22N_4/VREF_4 (io), AJ20 IO_L17N_4 (io), AJ21 IO_L12P_4 (io), AJ22 IO_L10N_4 (io), AJ23 IO_L07N_4 (io), AJ24 IO_L38N_4 (io), AJ25 IO_L33P_4 (io), AJ26 IO_L02N_4 (io), AJ27 IO_L01N_4/VRP_4 (io), AK4 IO_L01N_5/RDWR_B (io), AK5 IO_L02N_5 (io), AK7 IO_L35N_5 (io), AK8 IO_L07N_5 (io), AK9 IO_L10N_5/VRP_5 (io), AK11 IO_L16N_5 (io), AK12 IO_L21N_5 (io), AK13 IO_L25N_5 (io), AK15 IO/VREF_5 (io), AK16 IO_L32P_4/GCLK0 (io), AK18 IO_L25P_4 (io), AK19 IO_L22P_4 (io), AK20 IO_L17P_4 (io), AK22 IO_L10P_4 (io), AK23 IO_L07P_4 (io), AK24 IO_L38P_4 (io), AK26 IO_L02P_4 (io), AK27 IO_L01P_4/VRN_4 (io), AK28 IO/VREF_4 (io)
part D pins: AA2 IO_L19P_6 (io), AA3 IO_L19N_6 (io), AA6 IO_L17P_6/VREF_6 (io), AA7 IO_L17N_6 (io), AA9 IO_L16P_6 (io), AA10 IO_L20N_6 (io), AB1 IO_L15P_6 (io), AB2 IO_L15N_6 (io), AB4 IO_L14P_6 (io), AB5 IO_L14N_6 (io), AB6 IO (io), AB8 IO_L16N_6 (io), AC1 IO_L13P_6/VREF_6 (io), AC2 IO_L13N_6 (io), AC3 IO_L11P_6 (io), AC4 IO_L11N_6 (io), AC5 IO_L10P_6 (io), AC6 IO_L10N_6 (io), AC7 IO_L09P_6 (io), AD1 IO_L08P_6 (io), AD2 IO_L08N_6 (io), AD3 IO_L07P_6 (io), AD4 IO_L07N_6 (io), AD6 IO_L09N_6/VREF_6 (io), AE2 IO_L06P_6 (io), AE3 IO_L06N_6 (io), AE5 IO_L05P_6 (io), AF1 IO_L04P_6 (io), AF2 IO_L04N_6 (io), AF4 IO_L05N_6 (io), AG1 IO_L03P_6 (io), AG2 IO_L03N_6/VREF_6 (io), AG3 IO_L02P_6 (io), AG4 IO_L02N_6 (io), AH1 IO_L01P_6/VRN_6 (io), AH2 IO_L01N_6/VRP_6 (io), C1 IO_L01N_7/VRP_7 (io), C2 IO_L01P_7/VRN_7 (io), D1 IO_L03N_7/VREF_7 (io), D2 IO_L03P_7 (io), D3 IO_L02N_7 (io), D4 IO_L02P_7 (io), E1 IO_L04N_7 (io), E2 IO_L04P_7 (io), E4 IO_L05P_7 (io), F2 IO_L06N_7 (io), F3 IO_L06P_7 (io), F5 IO_L05N_7 (io), G1 IO_L08N_7 (io), G2 IO_L08P_7 (io), G3 IO_L07N_7 (io), G4 IO_L07P_7 (io), G6 IO_L09P_7 (io), H1 IO_L13N_7 (io), H2 IO_L13P_7 (io), H3 IO_L11N_7 (io), H4 IO_L11P_7 (io), H5 IO_L10N_7 (io), H6 IO_L10P_7/VREF_7 (io), H7 IO_L09N_7 (io), J1 IO_L15N_7 (io), J2 IO_L15P_7 (io), J4 IO_L14N_7 (io), J5 IO_L14P_7 (io), J6 IO (io), J8 IO_L16P_7/VREF_7 (io), K2 IO_L19N_7/VREF_7 (io), K3 IO_L19P_7 (io), K6 IO_L17N_7 (io), K7 IO_L17P_7 (io), K9 IO_L16N_7 (io), K10 IO_L20P_7 (io), L1 IO_L24N_7 (io), L2 IO_L24P_7 (io), L3 IO_L23N_7 (io), L4 IO_L23P_7 (io), L5 IO_L22N_7 (io), L6 IO_L22P_7 (io), L7 IO_L21N_7 (io), L8 IO_L21P_7 (io), L10 IO_L20N_7 (io), M1 IO_L27N_7 (io), M2 IO_L27P_7/VREF_7 (io), M3 IO_L26N_7 (io), M4 IO_L26P_7 (io), M5 IO_L49P_7 (io), M6 IO_L25N_7 (io), M7 IO_L25P_7 (io), M8 IO_L46N_7 (io), M9 IO_L46P_7 (io), M10 IO_L28P_7 (io), N1 IO_L31N_7 (io), N2 IO_L31P_7 (io), N4 IO_L50N_7 (io), N5 IO_L50P_7 (io), N6 IO_L49N_7 (io), N8 IO_L29N_7 (io), N9 IO_L29P_7 (io), N10 IO_L28N_7 (io), P2 IO_L34N_7 (io), P3 IO_L34P_7 (io), P6 IO_L33N_7 (io), P7 IO_L33P_7 (io), P9 IO_L32N_7 (io), P10 IO_L32P_7 (io), R1 IO_L40N_7/VREF_7 (io), R2 IO_L40P_7 (io), R3 IO_L39N_7 (io), R4 IO_L39P_7 (io), R5 IO_L38N_7 (io), R6 IO_L38P_7 (io), R7 IO_L37N_7 (io), R8 IO_L37P_7/VREF_7 (io), R9 IO_L35N_7 (io), R10 IO_L35P_7 (io), T1 IO_L40P_6/VREF_6 (io), T2 IO_L40N_6 (io), T3 IO_L39P_6 (io), T4 IO_L39N_6 (io), T5 IO_L38P_6 (io), T6 IO_L38N_6 (io), T7 IO_L52P_6 (io), T8 IO_L52N_6 (io), T9 IO_L37P_6 (io), T10 IO_L37N_6 (io), U2 IO_L36P_6 (io), U3 IO_L36N_6 (io), U6 IO_L35P_6 (io), U7 IO_L35N_6 (io), U9 IO_L34P_6 (io), U10 IO_L34N_6/VREF_6 (io), V1 IO_L33P_6 (io), V2 IO_L33N_6 (io), V4 IO_L32P_6 (io), V5 IO_L32N_6 (io), V6 IO_L31P_6 (io), V8 IO_L30P_6 (io), V9 IO_L30N_6 (io), V10 IO_L29P_6 (io), W1 IO_L28P_6 (io), W2 IO_L28N_6 (io), W3 IO_L27P_6 (io), W4 IO_L27N_6 (io), W5 IO_L31N_6 (io), W6 IO_L26P_6 (io), W7 IO_L26N_6 (io), W8 IO_L25P_6 (io), W9 IO_L25N_6 (io), W10 IO_L29N_6 (io), Y1 IO_L24P_6 (io), Y2 IO_L24N_6/VREF_6 (io), Y3 IO_L45P_6 (io), Y4 IO_L45N_6 (io), Y5 IO_L22P_6 (io), Y6 IO_L22N_6 (io), Y7 IO_L21P_6 (io), Y8 IO_L21N_6 (io), Y10 IO_L20P_6 (io)
part E pins: A1 GND (power), A2 GND (power), A3 HSWAP_EN (in), A6 GND (power), A10 GND (power), A14 GND (power), A17 GND (power), A21 GND (power), A25 GND (power), A28 TMS (in), A29 GND (power), A30 GND (power), AA1 GND (power), AA4 VCCAUX (power), AA5 GND (power), AA8 GND (power), AA23 GND (power), AA26 GND (power), AA27 VCCAUX (power), AA30 GND (power), AB3 VCCO_6 (power), AB7 VCCO_6 (power), AB11 VCCO_5 (power), AB20 VCCO_4 (power), AB24 VCCO_3 (power), AB28 VCCO_3 (power), AC10 GND (power), AC14 GND (power), AC17 GND (power), AC21 GND (power), AD5 VCCO_6 (power), AD9 VCCO_5 (power), AD13 VCCO_5 (power), AD18 VCCO_4 (power), AD22 VCCO_4 (power), AD26 VCCO_3 (power), AE1 GND (power), AE4 VCCAUX (power), AE27 VCCAUX (power), AE30 GND (power), AF3 VCCO_6 (power), AF5 GND (power), AF7 VCCO_5 (power), AF10 GND (power), AF14 GND (power), AF17 GND (power), AF21 GND (power), AF24 VCCO_4 (power), AF26 GND (power), AF28 VCCO_3 (power), AG6 VCCAUX (power), AG10 VCCAUX (power), AG14 VCCAUX (power), AG17 VCCAUX (power), AG21 VCCAUX (power), AG25 VCCAUX (power), AH3 M1 (in), AH5 VCCO_5 (power), AH9 VCCO_5 (power), AH13 VCCO_5 (power), AH18 VCCO_4 (power), AH22 VCCO_4 (power), AH26 VCCO_4 (power), AH28 CCLK (io), AJ1 GND (power), AJ2 GND (power), AJ3 M0 (in), AJ28 DONE (io), AJ29 GND (power), AJ30 GND (power), AK1 GND (power), AK2 GND (power), AK3 M2 (in), AK6 GND (power), AK10 GND (power), AK14 GND (power), AK17 GND (power), AK21 GND (power), AK25 GND (power), AK29 GND (power), AK30 GND (power), B1 GND (power), B2 GND (power), B3 PROG_B (in), B28 TCK (in), B29 GND (power), B30 GND (power), C3 TDI (in), C5 VCCO_0 (power), C9 VCCO_0 (power), C13 VCCO_0 (power), C18 VCCO_1 (power), C22 VCCO_1 (power), C26 VCCO_1 (power), C28 TDO (out), D6 VCCAUX (power), D10 VCCAUX (power), D14 VCCAUX (power), D17 VCCAUX (power), D21 VCCAUX (power), D25 VCCAUX (power), E3 VCCO_7 (power), E5 GND (power), E7 VCCO_0 (power), E10 GND (power), E14 GND (power), E17 GND (power), E21 GND (power), E24 VCCO_1 (power), E26 GND (power), E28 VCCO_2 (power), F1 GND (power), F4 VCCAUX (power), F27 VCCAUX (power), F30 GND (power), G5 VCCO_7 (power), G9 VCCO_0 (power), G13 VCCO_0 (power), G18 VCCO_1 (power), G22 VCCO_1 (power), G26 VCCO_2 (power), H10 GND (power), H14 GND (power), H17 GND (power), H21 GND (power), J3 VCCO_7 (power), J7 VCCO_7 (power), J11 VCCO_0 (power), J20 VCCO_1 (power), J24 VCCO_2 (power), J28 VCCO_2 (power), K1 GND (power), K4 VCCAUX (power), K5 GND (power), K8 GND (power), K23 GND (power), K26 GND (power), K27 VCCAUX (power), K30 GND (power), L9 VCCO_7 (power), L11 VCCINT (power), L12 VCCO_0 (power), L13 VCCO_0 (power), L14 VCCO_0 (power), L15 VCCINT (power), L16 VCCINT (power), L17 VCCO_1 (power), L18 VCCO_1 (power), L19 VCCO_1 (power), L20 VCCINT (power), L22 VCCO_2 (power), M11 VCCO_7 (power), M12 VCCINT (power), M13 VCCINT (power), M14 VCCINT (power), M15 GND (power), M16 GND (power), M17 VCCINT (power), M18 VCCINT (power), M19 VCCINT (power), M20 VCCO_2 (power), N3 VCCO_7 (power), N7 VCCO_7 (power), N11 VCCO_7 (power), N12 VCCINT (power), N13 GND (power), N14 GND (power), N15 GND (power), N16 GND (power), N17 GND (power), N18 GND (power), N19 VCCINT (power), N20 VCCO_2 (power), N24 VCCO_2 (power), N28 VCCO_2 (power), P1 GND (power), P4 VCCAUX (power), P5 GND (power), P8 GND (power), P11 VCCO_7 (power), P12 VCCINT (power), P13 GND (power), P14 GND (power), P15 GND (power), P16 GND (power), P17 GND (power), P18 GND (power), P19 VCCINT (power), P20 VCCO_2 (power), P23 GND (power), P26 GND (power), P27 VCCAUX (power), P30 GND (power), R11 VCCINT (power), R12 GND (power), R13 GND (power), R14 GND (power), R15 GND (power), R16 GND (power), R17 GND (power), R18 GND (power), R19 GND (power), R20 VCCINT (power), T11 VCCINT (power), T12 GND (power), T13 GND (power), T14 GND (power), T15 GND (power), T16 GND (power), T17 GND (power), T18 GND (power), T19 GND (power), T20 VCCINT (power), U1 GND (power), U4 VCCAUX (power), U5 GND (power), U8 GND (power), U11 VCCO_6 (power), U12 VCCINT (power), U13 GND (power), U14 GND (power), U15 GND (power), U16 GND (power), U17 GND (power), U18 GND (power), U19 VCCINT (power), U20 VCCO_3 (power), U23 GND (power), U26 GND (power), U27 VCCAUX (power), U30 GND (power), V3 VCCO_6 (power), V7 VCCO_6 (power), V11 VCCO_6 (power), V12 VCCINT (power), V13 GND (power), V14 GND (power), V15 GND (power), V16 GND (power), V17 GND (power), V18 GND (power), V19 VCCINT (power), V20 VCCO_3 (power), V24 VCCO_3 (power), V28 VCCO_3 (power), W11 VCCO_6 (power), W12 VCCINT (power), W13 VCCINT (power), W14 VCCINT (power), W15 GND (power), W16 GND (power), W17 VCCINT (power), W18 VCCINT (power), W19 VCCINT (power), W20 VCCO_3 (power), Y9 VCCO_6 (power), Y11 VCCINT (power), Y12 VCCO_5 (power), Y13 VCCO_5 (power), Y14 VCCO_5 (power), Y15 VCCINT (power), Y16 VCCINT (power), Y17 VCCO_4 (power), Y18 VCCO_4 (power), Y19 VCCO_4 (power), Y20 VCCINT (power), Y22 VCCO_3 (power)
part A text: BANK 0; BANK 1
part B text: BANK 2; BANK 3
part C text: BANK 4; BANK 5
part D text: BANK 6; BANK 7

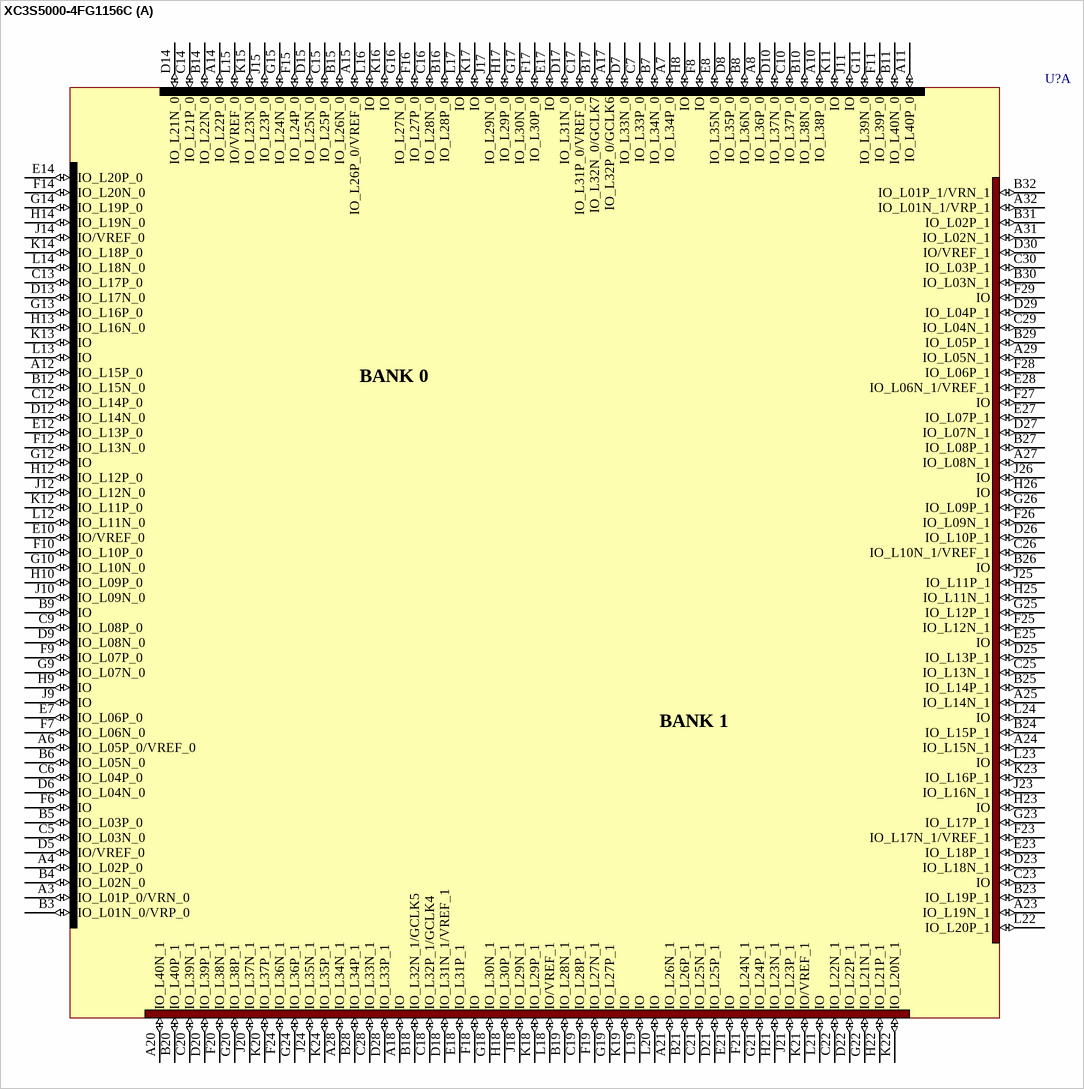
[diagram p145: symbol XC3S5000-4FG1156C]

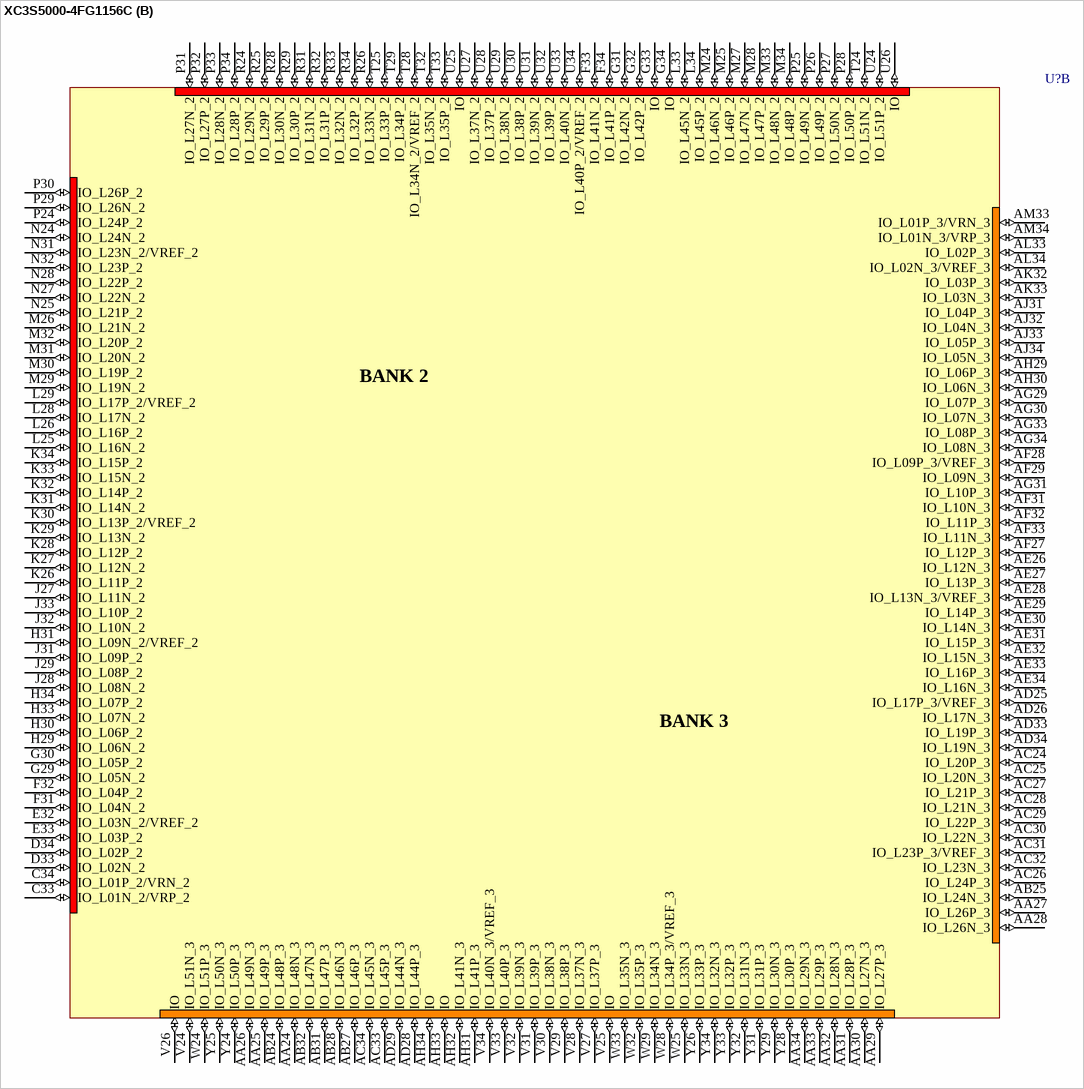
[diagram p146: symbol XC3S5000-4FG1156C]

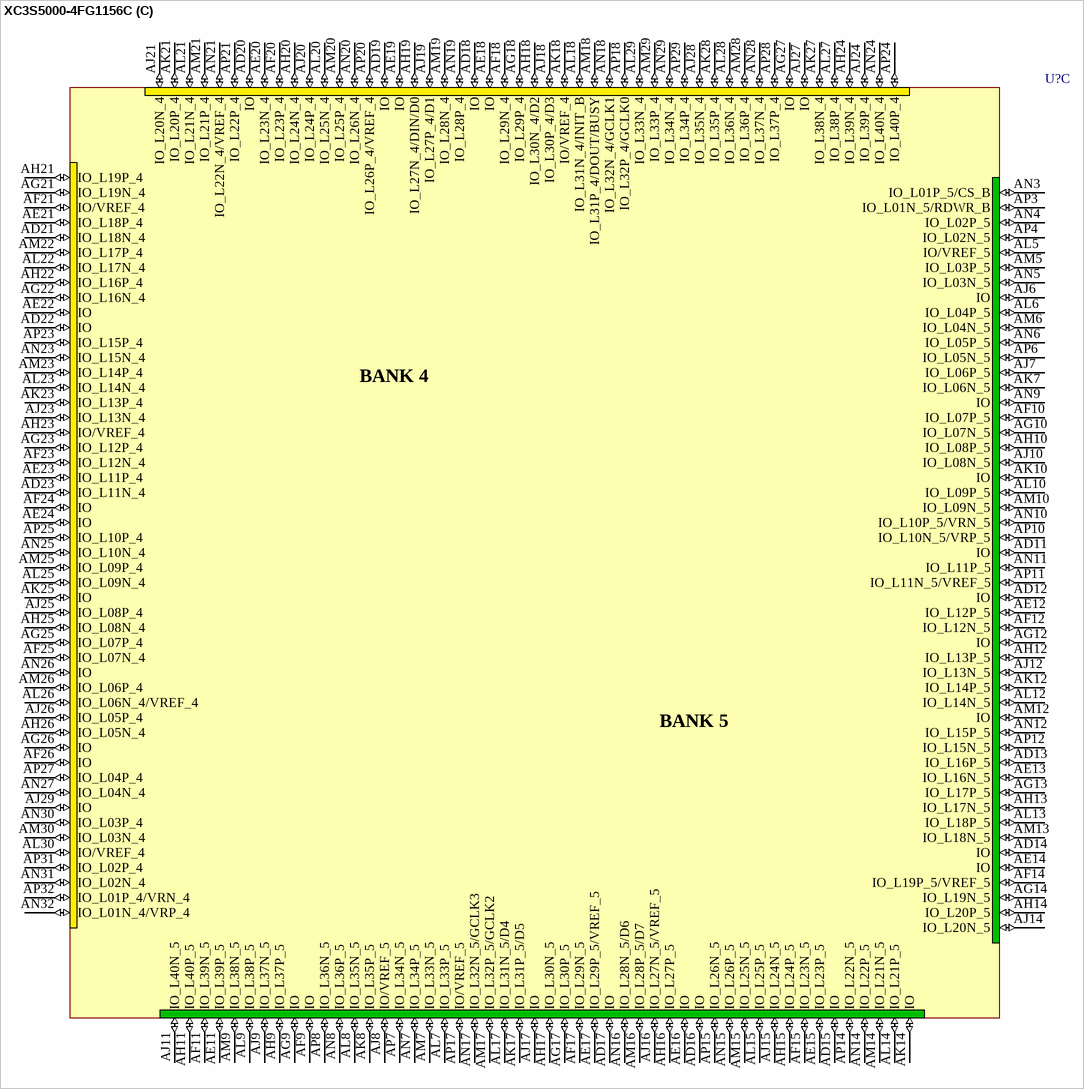
[diagram p147: symbol XC3S5000-4FG1156C]

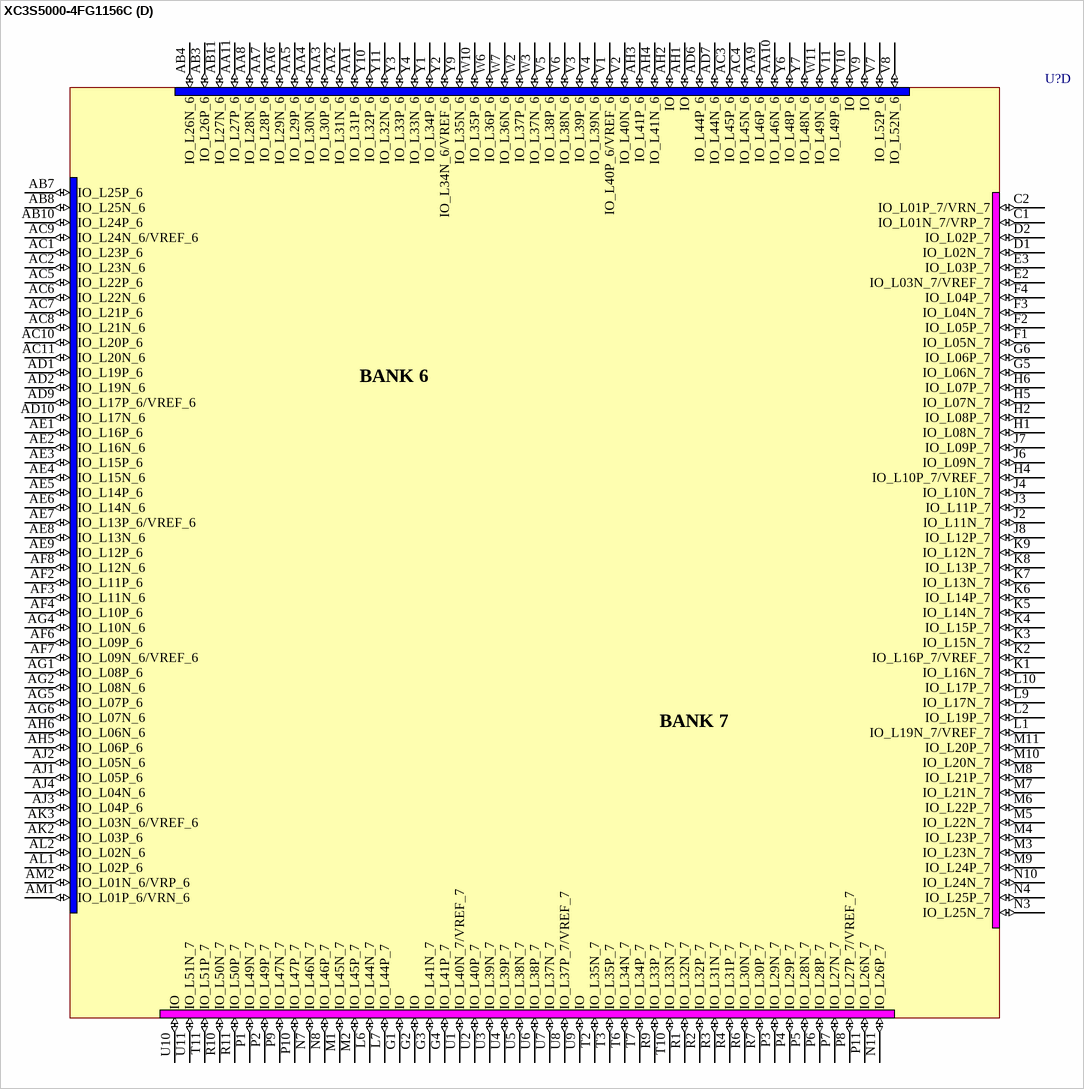
[diagram p148: symbol XC3S5000-4FG1156C]

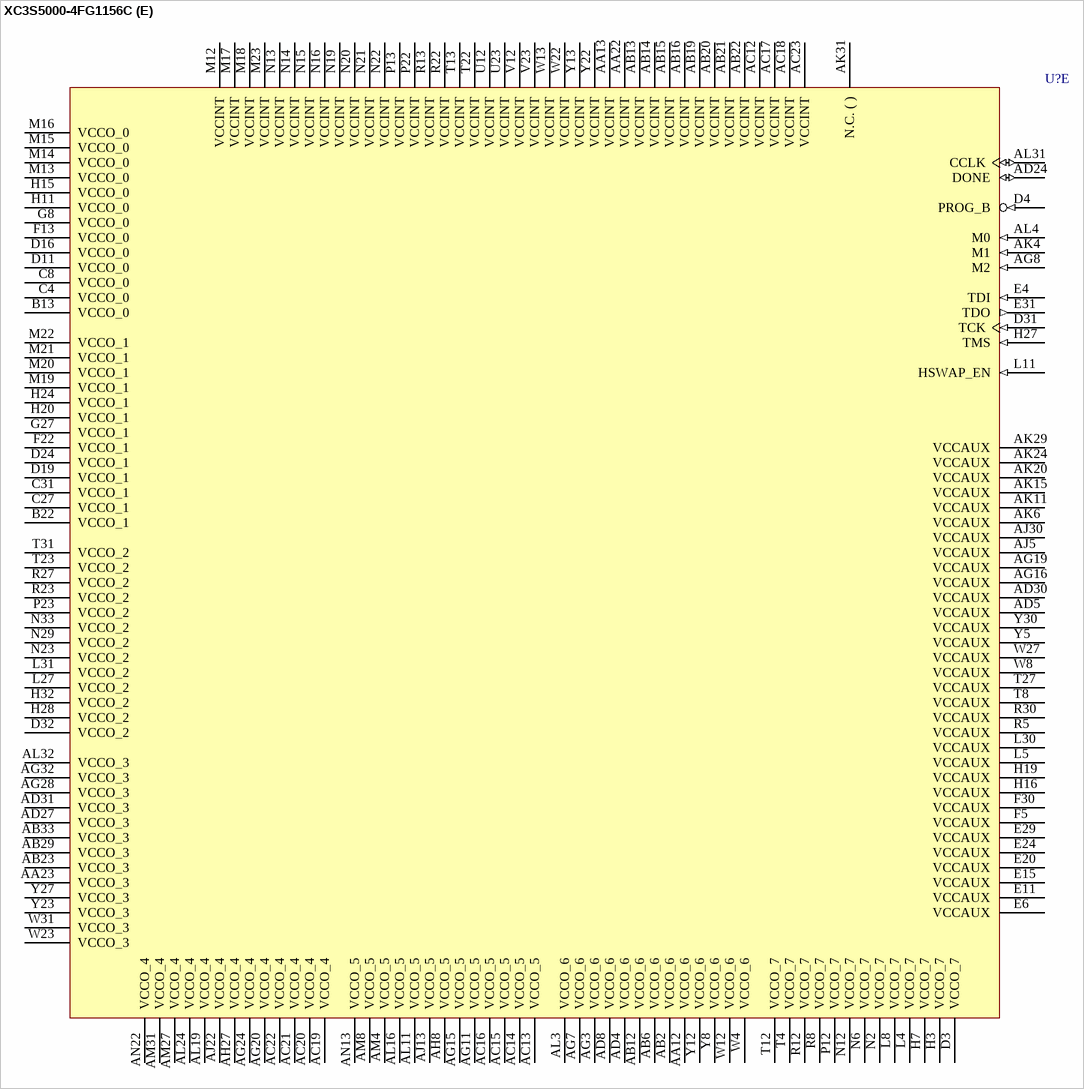
[diagram p149: symbol XC3S5000-4FG1156C]

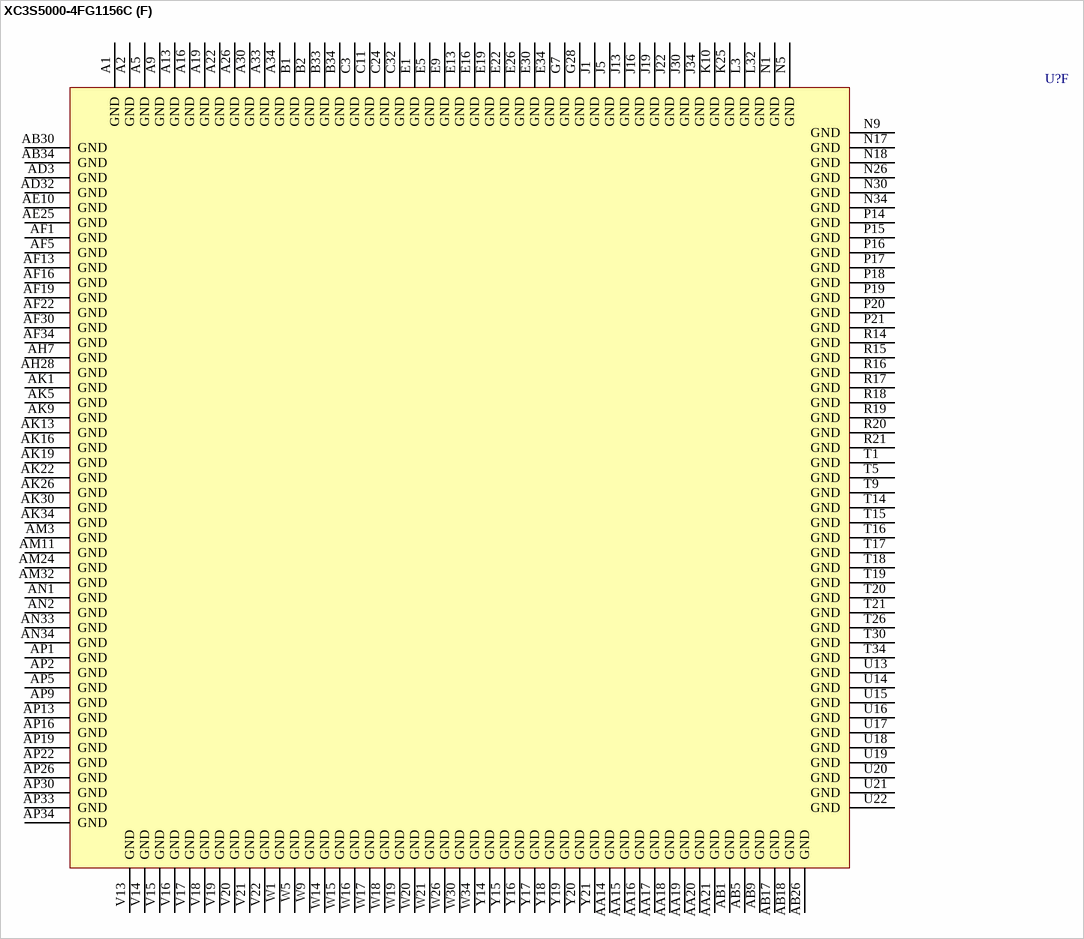
[diagram p150: symbol XC3S5000-4FG1156C]